# Altium integrated library Xilinx Aerospace and Defense.IntLib: 197 symbols (part 1 of 53)
Pins are listed as number, name and electrical type; pins without a type are passive.

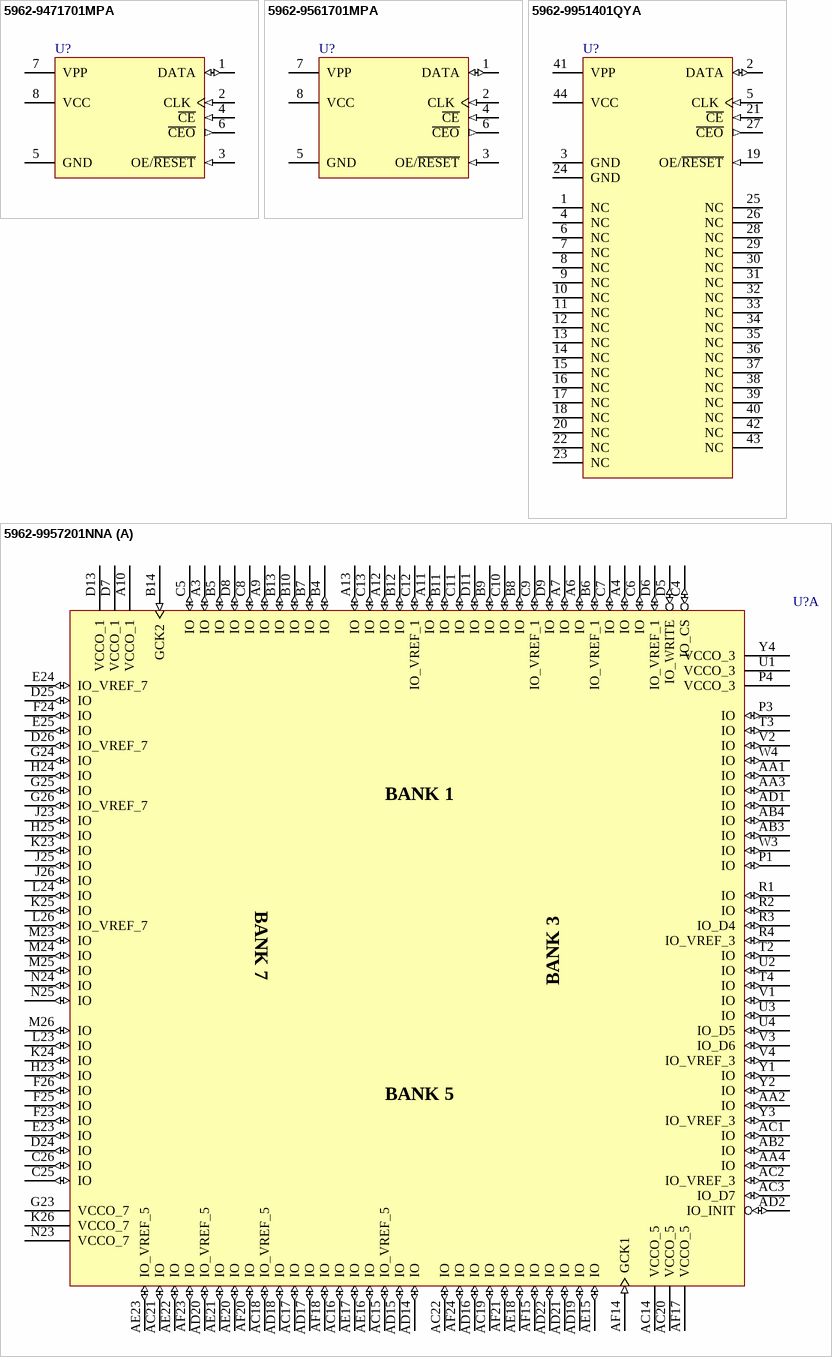
[diagram p0: symbols 5962-9471701MPA to 5962-9957201NNA]

## 5962-9471701MPA
designator U?
QPro XC1765 QML Configuration 5V PROM, SMD Number for XC1765DDD8M, 8-Pin Ceramic DIP, QML Certified to MIL-PRF-38535; DatasheetVersion: ver2.1, Jun-2000; PackageVersion: rev1.0, Apr-2001; PackageReference: DD8; PackageDescription: 8-Pin Ceramic DIP (DD8); Code_JEDEC: MO-001-AN*; ComponentLink1Description: Manufacturer URL; ComponentLink1URL: http://www.xilinx.com/; ComponentLink2Description: QPRO XC1700D Datasheet; ComponentLink2URL: http://www.xilinx.com/support/documentation/data_sheets/ds070.pdf; ComponentLink3Description: DD8 Package Drawing; ComponentLink3URL: http://www.xilinx.com/support/documentation/package_specs/dd8.pdf
footprint DD8 (DIP, 8-Leads, Row Spacing 7.62mm, Pitch 2.54mm, Body 10.16x7.49mm)
pins: 1 DATA (io) "Data Output.", 2 CLK (in) "Clock input for internal address counter.", 3 OE/~{RESET} (in) "Output Enable/Reset.", 4 ~{CE} (in) "Chip Enable Input.", 5 GND (power) "Ground.", 6 ~{CEO} (out) "Chip Enable Output, connects to the CE input of the next PROM in the chain.", 7 VPP (power) "Programming Voltage.  Do not leave Vpp floating!", 8 VCC (power) "Positive Supply."

## 5962-9561701MPA
designator U?
QPro XC17256 QML Configuration 5V PROM, SMD Number for XC17256DDD8M, 8-Pin Ceramic DIP, QML Certified to MIL-PRF-38535; DatasheetVersion: ver2.1, Jun-2000; PackageVersion: rev1.0, Apr-2001; PackageReference: DD8; PackageDescription: 8-Pin Ceramic DIP (DD8); Code_JEDEC: MO-001-AN*; ComponentLink1Description: Manufacturer URL; ComponentLink1URL: http://www.xilinx.com/; ComponentLink2Description: QPRO XC1700D Datasheet; ComponentLink2URL: http://www.xilinx.com/support/documentation/data_sheets/ds070.pdf; ComponentLink3Description: DD8 Package Drawing; ComponentLink3URL: http://www.xilinx.com/support/documentation/package_specs/dd8.pdf
footprint DD8 (DIP, 8-Leads, Row Spacing 7.62mm, Pitch 2.54mm, Body 10.16x7.49mm)
pins: 1 DATA (io) "Data Output.", 2 CLK (in) "Clock input for internal address counter.", 3 OE/~{RESET} (in) "Output Enable/Reset.", 4 ~{CE} (in) "Chip Enable Input.", 5 GND (power) "Ground.", 6 ~{CEO} (out) "Chip Enable Output, connects to the CE input of the next PROM in the chain.", 7 VPP (power) "Programming Voltage.  Do not leave Vpp floating!", 8 VCC (power) "Positive Supply."

## 5962-9951401QYA
designator U?
QPro Series Configuration 3.3V PROM, SMD Number for XQ1701LCC44M, 44-Pin Ceramic LCC, 1-Megabit Density, MIL-PRF-38535 Grade; DatasheetVersion: ver3.1, Nov-2001; PackageVersion: v1.0, Oct-2002; PackageReference: CC44; PackageDescription: 44-Pin Ceramic Chip Carrier Package (CC44); ComponentLink1Description: Manufacturer URL; ComponentLink1URL: http://www.xilinx.com/; ComponentLink2Description: QPro Series XQ/XQR Datasheet; ComponentLink2URL: http://www.xilinx.com/support/documentation/data_sheets/ds062.pdf; ComponentLink3Description: CC44 Package Drawing; ComponentLink3URL: http://www.xilinx.com/support/documentation/package_specs/cc44.pdf
footprint CC44_N (Leaded Chip Carrier, 44-Leads, Body 16.4x16.4mm, Pitch 1.27mm, IPC Medium Density)
footprint CC44_L (Leaded Chip Carrier, 44-Leads, Body 16.4x16.4mm, Pitch 1.27mm, IPC High Density)
footprint CC44_M (Leaded Chip Carrier, 44-Leads, Body 16.4x16.4mm, Pitch 1.27mm, IPC Low Density)
pins: 1 NC "No Connection.", 2 DATA (io) "Data Output.", 3 GND (power) "Ground.", 4 NC "No Connection.", 5 CLK (in) "Clock input for internal address counter.", 6 NC "No Connection.", 7 NC "No Connection.", 8 NC "No Connection.", 9 NC "No Connection.", 10 NC "No Connection.", 11 NC "No Connection.", 12 NC "No Connection.", 13 NC "No Connection.", 14 NC "No Connection.", 15 NC "No Connection.", 16 NC "No Connection.", 17 NC "No Connection.", 18 NC "No Connection.", 19 OE/~{RESET} (in) "Output Enable/Reset.", 20 NC "No Connection.", 21 ~{CE} (in) "Chip Enable Input.", 22 NC "No Connection.", 23 NC "No Connection.", 24 GND (power) "Ground.", 25 NC "No Connection.", 26 NC "No Connection.", 27 ~{CEO} (out) "Chip Enable Output, connects to the CE input of the next PROM in the chain.", 28 NC "No Connection.", 29 NC "No Connection.", 30 NC "No Connection.", 31 NC "No Connection.", 32 NC "No Connection.", 33 NC "No Connection.", 34 NC "No Connection.", 35 NC "No Connection.", 36 NC "No Connection.", 37 NC "No Connection.", 38 NC "No Connection.", 39 NC "No Connection.", 40 NC "No Connection.", 41 VPP (power) "Programming Voltage.  Do not leave Vpp floating!", 42 NC "No Connection.", 43 NC "No Connection.", 44 VCC (power) "Positive Supply."

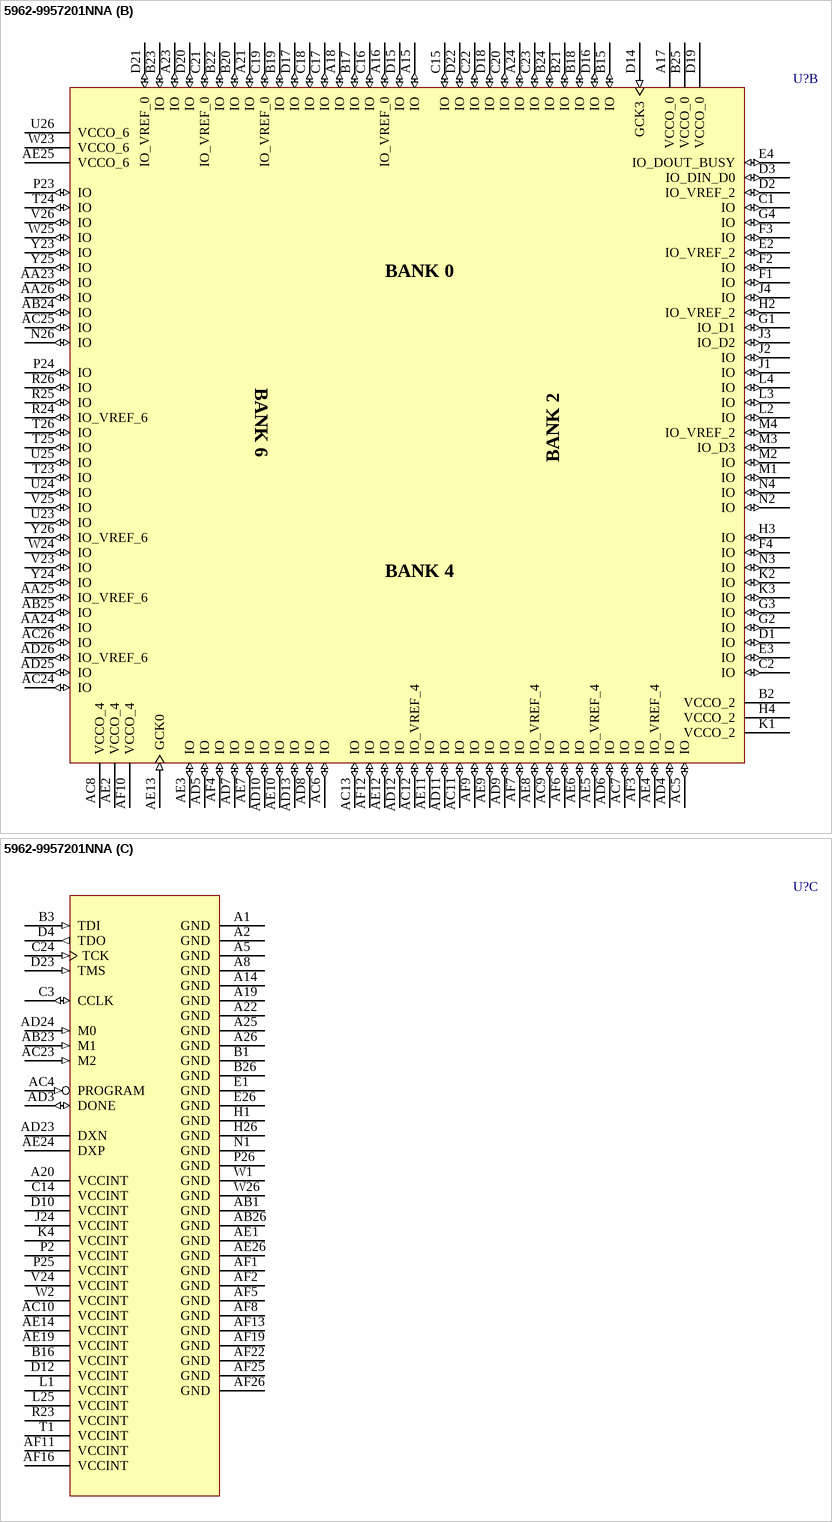
[diagram p1: symbol 5962-9957201NNA]

## 5962-9957201NNA
designator U?
QPro Virtex 2.5V QML High-Reliability FPGA, SMD Number for XQV300-4BG352N, 352-Pin BGA, Speed Grade 4, MIL-PRF-38535 Grade; DatasheetVersion: ver1.5, Dec-2001; PackageVersion: ver1.1, Apr-2001; PackageReference: BG352; PackageDescription: 352-Ball Metal Ball Grid Array (BG352); Code_JEDEC: MO-192-BAR-2; ComponentLink1Description: Manufacturer URL; ComponentLink1URL: http://www.xilinx.com/; ComponentLink2Description: QPro Virtex Datasheet; ComponentLink2URL: http://www.xilinx.com/support/documentation/data_sheets/ds002.pdf; ComponentLink3Description: BG352 Package Drawing; ComponentLink3URL: http://www.xilinx.com/support/documentation/package_specs/bg352.pdf
footprint BG352 (BGA, 352-Leads, Body 35x35mm, Pitch 1.27mm)
part A pins: A3 IO (io), A4 IO (io), A6 IO (io), A7 IO (io), A9 IO (io), A10 VCCO_1 (power), A11 IO (io), A12 IO (io), A13 IO (io), AA1 IO (io), AA2 IO (io), AA3 IO (io), AA4 IO (io), AB2 IO (io), AB3 IO (io), AB4 IO (io), AC1 IO (io), AC2 IO_VREF_3 (io), AC3 IO_D7 (io), AC14 VCCO_5 (power), AC15 IO_VREF_5 (io), AC16 IO (io), AC17 IO (io), AC18 IO_VREF_5 (io), AC19 IO (io), AC20 VCCO_5 (power), AC21 IO (io), AC22 IO (io), AD1 IO (io), AD2 IO_INIT (io), AD14 IO (io), AD15 IO (io), AD16 IO (io), AD17 IO (io), AD18 IO (io), AD19 IO (io), AD20 IO_VREF_5 (io), AD21 IO (io), AD22 IO (io), AE15 IO (io), AE16 IO (io), AE17 IO (io), AE18 IO (io), AE20 IO (io), AE21 IO (io), AE22 IO (io), AE23 IO_VREF_5 (io), AF14 GCK1 (in), AF15 IO (io), AF17 VCCO_5 (power), AF18 IO (io), AF20 IO (io), AF21 IO (io), AF23 IO (io), AF24 IO (io), B4 IO (io), B5 IO (io), B6 IO_VREF_1 (io), B7 IO (io), B8 IO (io), B9 IO (io), B10 IO (io), B11 IO (io), B12 IO (io), B13 IO (io), B14 GCK2 (in), C4 IO_CS (io), C5 IO (io), C6 IO (io), C7 IO (io), C8 IO (io), C9 IO_VREF_1 (io), C10 IO (io), C11 IO (io), C12 IO_VREF_1 (io), C13 IO (io), C25 IO (io), C26 IO (io), D5 IO_WRITE (io), D6 IO_VREF_1 (io), D7 VCCO_1 (power), D8 IO (io), D9 IO (io), D11 IO (io), D13 VCCO_1 (power), D24 IO (io), D25 IO (io), D26 IO_VREF_7 (io), E23 IO (io), E24 IO_VREF_7 (io), E25 IO (io), F23 IO (io), F24 IO (io), F25 IO (io), F26 IO (io), G23 VCCO_7 (power), G24 IO (io), G25 IO (io), G26 IO_VREF_7 (io), H23 IO (io), H24 IO (io), H25 IO (io), J23 IO (io), J25 IO (io), J26 IO (io), K23 IO (io), K24 IO (io), K25 IO (io), K26 VCCO_7 (power), L23 IO (io), L24 IO (io), L26 IO_VREF_7 (io), M23 IO (io), M24 IO (io), M25 IO (io), M26 IO (io), N23 VCCO_7 (power), N24 IO (io), N25 IO (io), P1 IO (io), P3 IO (io), P4 VCCO_3 (power), R1 IO (io), R2 IO (io), R3 IO_D4 (io), R4 IO_VREF_3 (io), T2 IO (io), T3 IO (io), T4 IO (io), U1 VCCO_3 (power), U2 IO (io), U3 IO (io), U4 IO_D5 (io), V1 IO (io), V2 IO (io), V3 IO_D6 (io), V4 IO_VREF_3 (io), W3 IO (io), W4 IO (io), Y1 IO (io), Y2 IO (io), Y3 IO_VREF_3 (io), Y4 VCCO_3 (power)
part B pins: A15 IO (io), A16 IO_VREF_0 (io), A17 VCCO_0 (power), A18 IO (io), A21 IO (io), A23 IO (io), A24 IO (io), AA23 IO (io), AA24 IO (io), AA25 IO_VREF_6 (io), AA26 IO (io), AB24 IO (io), AB25 IO (io), AC5 IO (io), AC6 IO (io), AC7 IO (io), AC8 VCCO_4 (power), AC9 IO (io), AC11 IO (io), AC12 IO_VREF_4 (io), AC13 IO (io), AC24 IO (io), AC25 IO (io), AC26 IO (io), AD4 IO (io), AD5 IO (io), AD6 IO (io), AD7 IO (io), AD8 IO (io), AD9 IO (io), AD10 IO (io), AD11 IO (io), AD12 IO (io), AD13 IO (io), AD25 IO (io), AD26 IO_VREF_6 (io), AE2 VCCO_4 (power), AE3 IO (io), AE4 IO_VREF_4 (io), AE5 IO_VREF_4 (io), AE6 IO (io), AE7 IO (io), AE8 IO_VREF_4 (io), AE9 IO (io), AE10 IO (io), AE11 IO (io), AE12 IO (io), AE13 GCK0 (in), AE25 VCCO_6 (power), AF3 IO (io), AF4 IO (io), AF6 IO (io), AF7 IO (io), AF9 IO (io), AF10 VCCO_4 (power), AF12 IO (io), B2 VCCO_2 (power), B15 IO (io), B17 IO (io), B18 IO (io), B19 IO (io), B20 IO (io), B21 IO (io), B22 IO (io), B23 IO (io), B24 IO (io), B25 VCCO_0 (power), C1 IO (io), C2 IO (io), C15 IO (io), C16 IO (io), C17 IO (io), C18 IO (io), C19 IO_VREF_0 (io), C20 IO (io), C21 IO_VREF_0 (io), C22 IO (io), C23 IO (io), D1 IO (io), D2 IO_VREF_2 (io), D3 IO_DIN_D0 (io), D14 GCK3 (in), D15 IO (io), D16 IO (io), D17 IO (io), D18 IO (io), D19 VCCO_0 (power), D20 IO (io), D21 IO_VREF_0 (io), D22 IO (io), E2 IO_VREF_2 (io), E3 IO (io), E4 IO_DOUT_BUSY (io), F1 IO (io), F2 IO (io), F3 IO (io), F4 IO (io), G1 IO_D1 (io), G2 IO (io), G3 IO (io), G4 IO (io), H2 IO_VREF_2 (io), H3 IO (io), H4 VCCO_2 (power), J1 IO (io), J2 IO (io), J3 IO_D2 (io), J4 IO (io), K1 VCCO_2 (power), K2 IO (io), K3 IO (io), L2 IO (io), L3 IO (io), L4 IO (io), M1 IO (io), M2 IO (io), M3 IO_D3 (io), M4 IO_VREF_2 (io), N2 IO (io), N3 IO (io), N4 IO (io), N26 IO (io), P23 IO (io), P24 IO (io), R24 IO_VREF_6 (io), R25 IO (io), R26 IO (io), T23 IO (io), T24 IO (io), T25 IO (io), T26 IO (io), U23 IO (io), U24 IO (io), U25 IO (io), U26 VCCO_6 (power), V23 IO (io), V25 IO (io), V26 IO (io), W23 VCCO_6 (power), W24 IO (io), W25 IO (io), Y23 IO (io), Y24 IO (io), Y25 IO (io), Y26 IO_VREF_6 (io)
part C pins: A1 GND (power), A2 GND (power), A5 GND (power), A8 GND (power), A14 GND (power), A19 GND (power), A20 VCCINT (power), A22 GND (power), A25 GND (power), A26 GND (power), AB1 GND (power), AB23 M1 (in), AB26 GND (power), AC4 PROGRAM (in), AC10 VCCINT (power), AC23 M2 (in), AD3 DONE (io), AD23 DXN, AD24 M0 (in), AE1 GND (power), AE14 VCCINT (power), AE19 VCCINT (power), AE24 DXP, AE26 GND (power), AF1 GND (power), AF2 GND (power), AF5 GND (power), AF8 GND (power), AF11 VCCINT (power), AF13 GND (power), AF16 VCCINT (power), AF19 GND (power), AF22 GND (power), AF25 GND (power), AF26 GND (power), B1 GND (power), B3 TDI (in), B16 VCCINT (power), B26 GND (power), C3 CCLK (io), C14 VCCINT (power), C24 TCK (in), D4 TDO (out), D10 VCCINT (power), D12 VCCINT (power), D23 TMS (in), E1 GND (power), E26 GND (power), H1 GND (power), H26 GND (power), J24 VCCINT (power), K4 VCCINT (power), L1 VCCINT (power), L25 VCCINT (power), N1 GND (power), P2 VCCINT (power), P25 VCCINT (power), P26 GND (power), R23 VCCINT (power), T1 VCCINT (power), V24 VCCINT (power), W1 GND (power), W2 VCCINT (power), W26 GND (power)
part A text: BANK 1; BANK 7; BANK 3; BANK 5
part B text: BANK 0; BANK 6; BANK 2; BANK 4

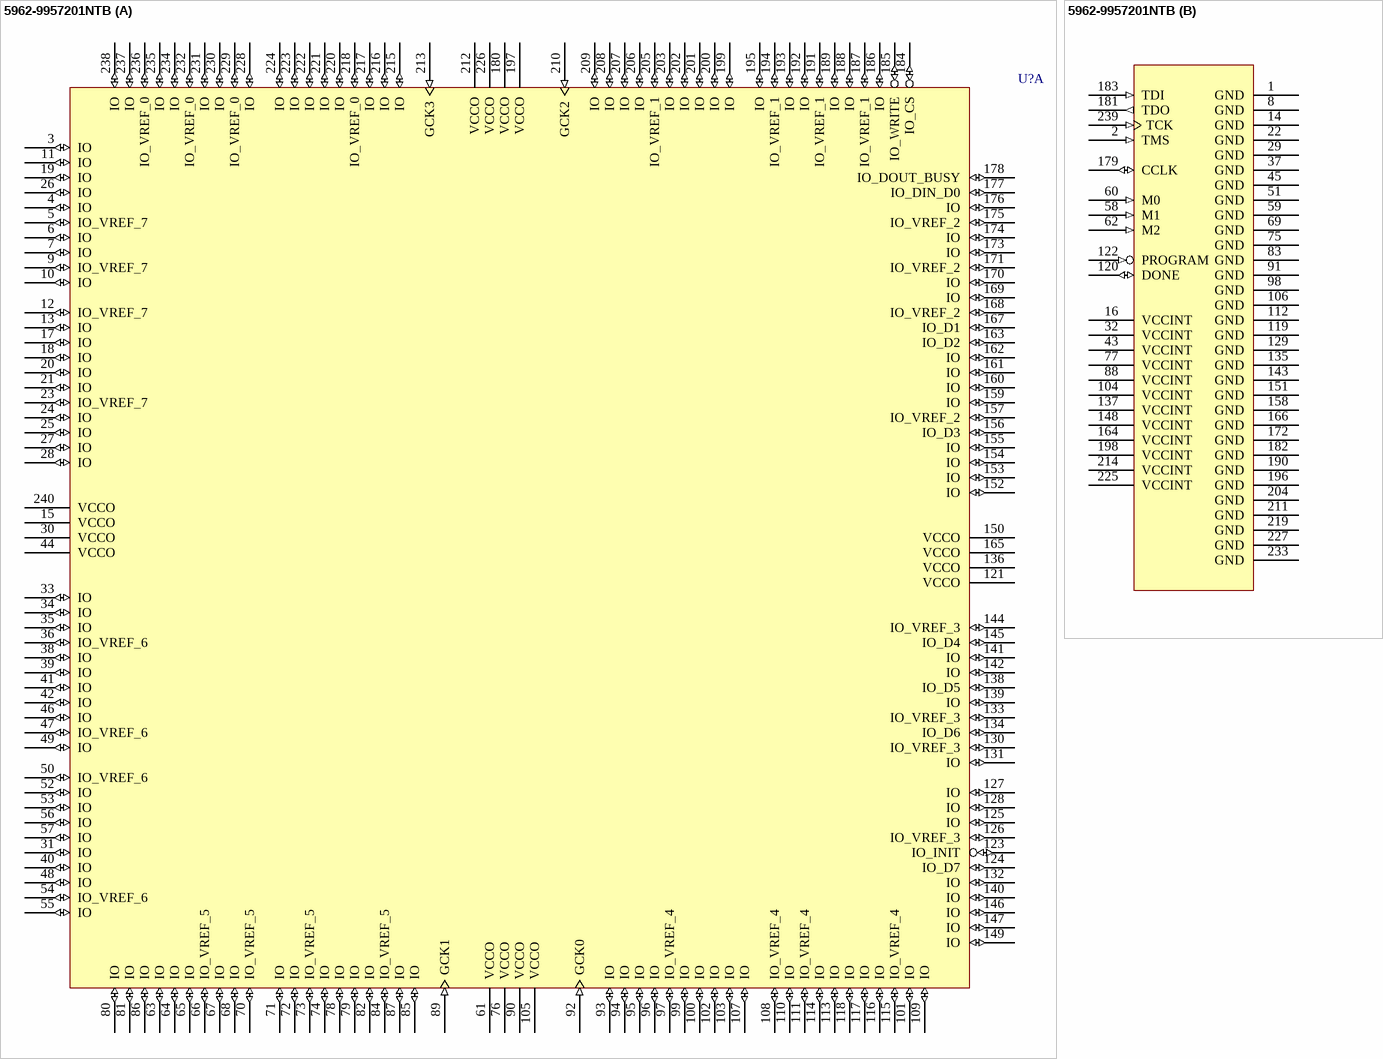
[diagram p2: symbol 5962-9957201NTB]

## 5962-9957201NTB
designator U?
QPro Virtex 2.5V QML High-Reliability FPGA, SMD Number for XQV300-4PQ240N, 166 User I/Os, 240-Pin PQFP, Speed Grade 4, MIL-PRF-38535 Grade; DatasheetVersion: ver1.5, Dec-2001; PackageVersion: ver1.2, Jun-2004; PackageReference: PQ240; PackageDescription: 240-Pin Plastic Quad Flat Pack (PQ240); Code_JEDEC: MO-143-GA; ComponentLink1Description: Manufacturer URL; ComponentLink1URL: http://www.xilinx.com/; ComponentLink2Description: QPro Virtex Datasheet; ComponentLink2URL: http://www.xilinx.com/support/documentation/data_sheets/ds002.pdf; ComponentLink3Description: PQ240 Package Drawing; ComponentLink3URL: http://www.xilinx.com/support/documentation/package_specs/pq240.pdf
footprint PQ240_N (Shrink QFP, 240-Leads, Body 32x32mm, Pitch 0.5mm, IPC Medium Density)
footprint PQ240_L (Shrink QFP, 240-Leads, Body 32x32mm, Pitch 0.5mm, IPC High Density)
footprint PQ240_M (Shrink QFP, 240-Leads, Body 32x32mm, Pitch 0.5mm, IPC Low Density)
part A pins: 3 IO (io), 4 IO (io), 5 IO_VREF_7 (io), 6 IO (io), 7 IO (io), 9 IO_VREF_7 (io), 10 IO (io), 11 IO (io), 12 IO_VREF_7 (io), 13 IO (io), 15 VCCO (power), 17 IO (io), 18 IO (io), 19 IO (io), 20 IO (io), 21 IO (io), 23 IO_VREF_7 (io), 24 IO (io), 25 IO (io), 26 IO (io), 27 IO (io), 28 IO (io), 30 VCCO (power), 31 IO (io), 33 IO (io), 34 IO (io), 35 IO (io), 36 IO_VREF_6 (io), 38 IO (io), 39 IO (io), 40 IO (io), 41 IO (io), 42 IO (io), 44 VCCO (power), 46 IO (io), 47 IO_VREF_6 (io), 48 IO (io), 49 IO (io), 50 IO_VREF_6 (io), 52 IO (io), 53 IO (io), 54 IO_VREF_6 (io), 55 IO (io), 56 IO (io), 57 IO (io), 61 VCCO (power), 63 IO (io), 64 IO (io), 65 IO (io), 66 IO_VREF_5 (io), 67 IO (io), 68 IO (io), 70 IO_VREF_5 (io), 71 IO (io), 72 IO (io), 73 IO_VREF_5 (io), 74 IO (io), 76 VCCO (power), 78 IO (io), 79 IO (io), 80 IO (io), 81 IO (io), 82 IO (io), 84 IO_VREF_5 (io), 85 IO (io), 86 IO (io), 87 IO (io), 89 GCK1 (in), 90 VCCO (power), 92 GCK0 (in), 93 IO (io), 94 IO (io), 95 IO (io), 96 IO (io), 97 IO_VREF_4 (io), 99 IO (io), 100 IO (io), 101 IO (io), 102 IO (io), 103 IO (io), 105 VCCO (power), 107 IO (io), 108 IO_VREF_4 (io), 109 IO (io), 110 IO (io), 111 IO_VREF_4 (io), 113 IO (io), 114 IO (io), 115 IO_VREF_4 (io), 116 IO (io), 117 IO (io), 118 IO (io), 121 VCCO (power), 123 IO_INIT (io), 124 IO_D7 (io), 125 IO (io), 126 IO_VREF_3 (io), 127 IO (io), 128 IO (io), 130 IO_VREF_3 (io), 131 IO (io), 132 IO (io), 133 IO_VREF_3 (io), 134 IO_D6 (io), 136 VCCO (power), 138 IO_D5 (io), 139 IO (io), 140 IO (io), 141 IO (io), 142 IO (io), 144 IO_VREF_3 (io), 145 IO_D4 (io), 146 IO (io), 147 IO (io), 149 IO (io), 150 VCCO (power), 152 IO (io), 153 IO (io), 154 IO (io), 155 IO (io), 156 IO_D3 (io), 157 IO_VREF_2 (io), 159 IO (io), 160 IO (io), 161 IO (io), 162 IO (io), 163 IO_D2 (io), 165 VCCO (power), 167 IO_D1 (io), 168 IO_VREF_2 (io), 169 IO (io), 170 IO (io), 171 IO_VREF_2 (io), 173 IO (io), 174 IO (io), 175 IO_VREF_2 (io), 176 IO (io), 177 IO_DIN_D0 (io), 178 IO_DOUT_BUSY (io), 180 VCCO (power), 184 IO_CS (io), 185 IO_WRITE (io), 186 IO (io), 187 IO_VREF_1 (io), 188 IO (io), 189 IO (io), 191 IO_VREF_1 (io), 192 IO (io), 193 IO (io), 194 IO_VREF_1 (io), 195 IO (io), 197 VCCO (power), 199 IO (io), 200 IO (io), 201 IO (io), 202 IO (io), 203 IO (io), 205 IO_VREF_1 (io), 206 IO (io), 207 IO (io), 208 IO (io), 209 IO (io), 210 GCK2 (in), 212 VCCO (power), 213 GCK3 (in), 215 IO (io), 216 IO (io), 217 IO (io), 218 IO_VREF_0 (io), 220 IO (io), 221 IO (io), 222 IO (io), 223 IO (io), 224 IO (io), 226 VCCO (power), 228 IO (io), 229 IO_VREF_0 (io), 230 IO (io), 231 IO (io), 232 IO_VREF_0 (io), 234 IO (io), 235 IO (io), 236 IO_VREF_0 (io), 237 IO (io), 238 IO (io), 240 VCCO (power)
part B pins: 1 GND (power), 2 TMS (in), 8 GND (power), 14 GND (power), 16 VCCINT (power), 22 GND (power), 29 GND (power), 32 VCCINT (power), 37 GND (power), 43 VCCINT (power), 45 GND (power), 51 GND (power), 58 M1 (in), 59 GND (power), 60 M0 (in), 62 M2 (in), 69 GND (power), 75 GND (power), 77 VCCINT (power), 83 GND (power), 88 VCCINT (power), 91 GND (power), 98 GND (power), 104 VCCINT (power), 106 GND (power), 112 GND (power), 119 GND (power), 120 DONE (io), 122 PROGRAM (in), 129 GND (power), 135 GND (power), 137 VCCINT (power), 143 GND (power), 148 VCCINT (power), 151 GND (power), 158 GND (power), 164 VCCINT (power), 166 GND (power), 172 GND (power), 179 CCLK (io), 181 TDO (out), 182 GND (power), 183 TDI (in), 190 GND (power), 196 GND (power), 198 VCCINT (power), 204 GND (power), 211 GND (power), 214 VCCINT (power), 219 GND (power), 225 VCCINT (power), 227 GND (power), 233 GND (power), 239 TCK (in)

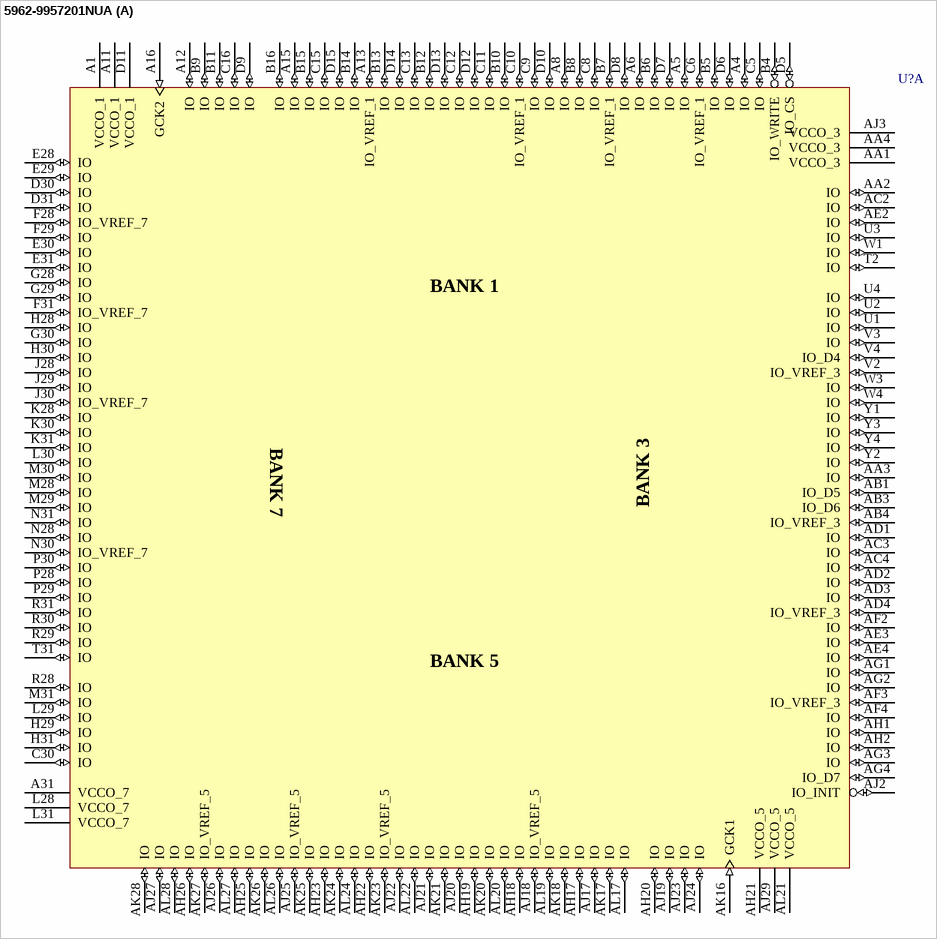
[diagram p3: symbol 5962-9957201NUA]

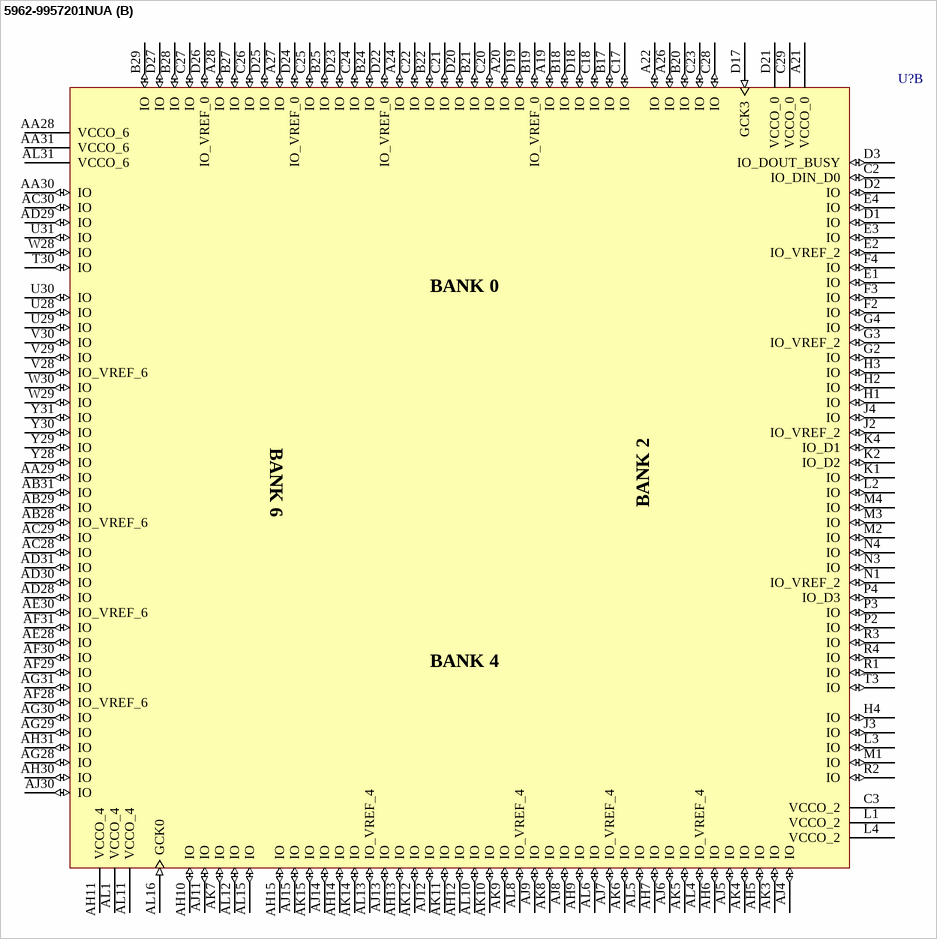
[diagram p4: symbol 5962-9957201NUA]

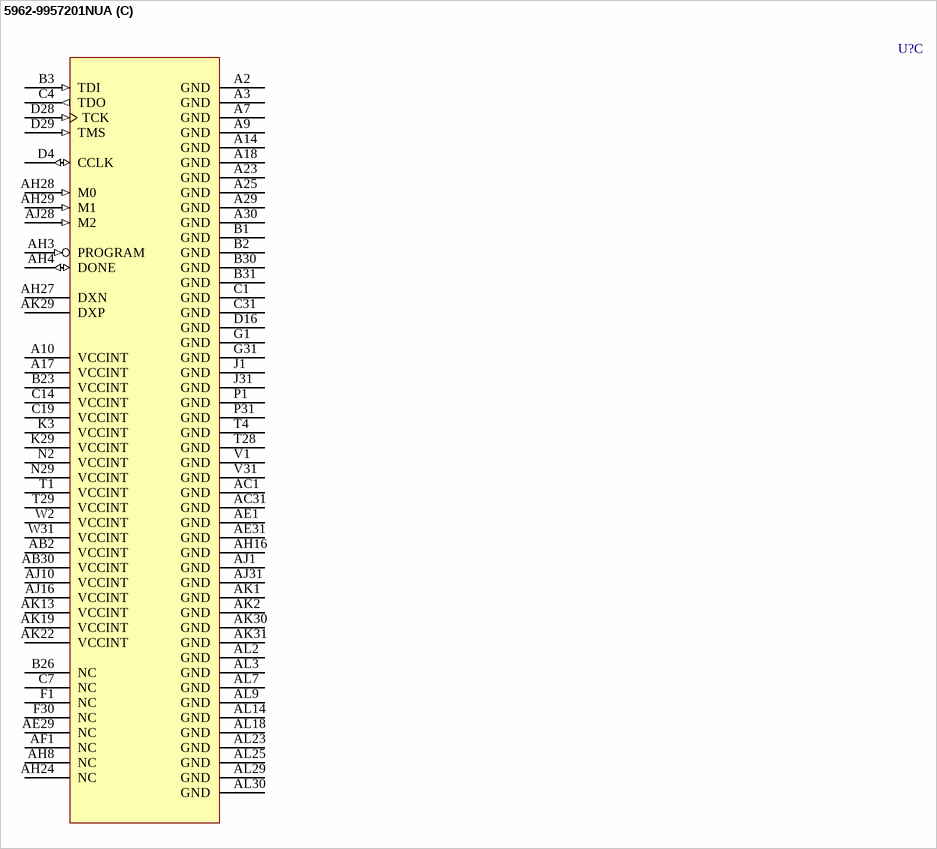
[diagram p5: symbol 5962-9957201NUA]

## 5962-9957201NUA
designator U?
QPro Virtex 2.5V QML High-Reliability FPGA, SMD Number for XQV300-4BG432N, 316 User I/Os, 432-Pin BGA, Speed Grade 4, MIL-PRF-38535 Grade; DatasheetVersion: ver1.5, Dec-2001; PackageVersion: ver1.1, Apr-2001; PackageReference: BG432; PackageDescription: 432-Ball Metal Ball Grid Array (BG432); Code_JEDEC: MO-192-BAU-1 (Depopulated); ComponentLink1Description: Manufacturer URL; ComponentLink1URL: http://www.xilinx.com/; ComponentLink2Description: QPro Virtex Datasheet; ComponentLink2URL: http://www.xilinx.com/support/documentation/data_sheets/ds002.pdf; ComponentLink3Description: BG432 Package Drawing; ComponentLink3URL: http://www.xilinx.com/support/documentation/package_specs/bg432.pdf
footprint BG432 (BGA, 432-Leads, Body 40x40mm, Pitch 1.27mm)
part A pins: A1 VCCO_1 (power), A4 IO (io), A5 IO (io), A6 IO (io), A8 IO (io), A11 VCCO_1 (power), A12 IO (io), A13 IO_VREF_1 (io), A15 IO (io), A16 GCK2 (in), A31 VCCO_7 (power), AA1 VCCO_3 (power), AA2 IO (io), AA3 IO (io), AA4 VCCO_3 (power), AB1 IO_D5 (io), AB3 IO_D6 (io), AB4 IO_VREF_3 (io), AC2 IO (io), AC3 IO (io), AC4 IO (io), AD1 IO (io), AD2 IO (io), AD3 IO (io), AD4 IO_VREF_3 (io), AE2 IO (io), AE3 IO (io), AE4 IO (io), AF2 IO (io), AF3 IO_VREF_3 (io), AF4 IO (io), AG1 IO (io), AG2 IO (io), AG3 IO (io), AG4 IO_D7 (io), AH1 IO (io), AH2 IO (io), AH17 IO (io), AH18 IO (io), AH19 IO (io), AH20 IO (io), AH21 VCCO_5 (power), AH22 IO (io), AH23 IO (io), AH25 IO (io), AH26 IO (io), AJ2 IO_INIT (io), AJ3 VCCO_3 (power), AJ17 IO (io), AJ18 IO_VREF_5 (io), AJ19 IO (io), AJ20 IO (io), AJ21 IO (io), AJ22 IO (io), AJ23 IO (io), AJ24 IO (io), AJ25 IO_VREF_5 (io), AJ26 IO (io), AJ27 IO (io), AJ29 VCCO_5 (power), AK16 GCK1 (in), AK17 IO (io), AK18 IO (io), AK20 IO (io), AK21 IO (io), AK23 IO_VREF_5 (io), AK24 IO (io), AK25 IO (io), AK26 IO (io), AK27 IO_VREF_5 (io), AK28 IO (io), AL17 IO (io), AL19 IO (io), AL20 IO (io), AL21 VCCO_5 (power), AL22 IO (io), AL24 IO (io), AL26 IO (io), AL27 IO (io), AL28 IO (io), B4 IO_WRITE (io), B5 IO (io), B6 IO (io), B7 IO_VREF_1 (io), B8 IO (io), B9 IO (io), B10 IO (io), B11 IO (io), B12 IO (io), B13 IO (io), B14 IO (io), B15 IO (io), B16 IO (io), C5 IO (io), C6 IO_VREF_1 (io), C8 IO (io), C9 IO (io), C10 IO_VREF_1 (io), C11 IO (io), C12 IO (io), C13 IO (io), C15 IO (io), C16 IO (io), C30 IO (io), D5 IO_CS (io), D6 IO (io), D7 IO (io), D8 IO (io), D9 IO (io), D10 IO (io), D11 VCCO_1 (power), D12 IO (io), D13 IO (io), D14 IO (io), D15 IO (io), D30 IO (io), D31 IO (io), E28 IO (io), E29 IO (io), E30 IO (io), E31 IO (io), F28 IO_VREF_7 (io), F29 IO (io), F31 IO_VREF_7 (io), G28 IO (io), G29 IO (io), G30 IO (io), H28 IO (io), H29 IO (io), H30 IO (io), H31 IO (io), J28 IO (io), J29 IO (io), J30 IO_VREF_7 (io), K28 IO (io), K30 IO (io), K31 IO (io), L28 VCCO_7 (power), L29 IO (io), L30 IO (io), L31 VCCO_7 (power), M28 IO (io), M29 IO (io), M30 IO (io), M31 IO (io), N28 IO (io), N30 IO_VREF_7 (io), N31 IO (io), P28 IO (io), P29 IO (io), P30 IO (io), R28 IO (io), R29 IO (io), R30 IO (io), R31 IO (io), T2 IO (io), T31 IO (io), U1 IO (io), U2 IO (io), U3 IO (io), U4 IO (io), V2 IO_VREF_3 (io), V3 IO (io), V4 IO_D4 (io), W1 IO (io), W3 IO (io), W4 IO (io), Y1 IO (io), Y2 IO (io), Y3 IO (io), Y4 IO (io)
part B pins: A19 IO (io), A20 IO (io), A21 VCCO_0 (power), A22 IO (io), A24 IO (io), A26 IO (io), A27 IO (io), A28 IO (io), AA28 VCCO_6 (power), AA29 IO (io), AA30 IO (io), AA31 VCCO_6 (power), AB28 IO_VREF_6 (io), AB29 IO (io), AB31 IO (io), AC28 IO (io), AC29 IO (io), AC30 IO (io), AD28 IO (io), AD29 IO (io), AD30 IO (io), AD31 IO (io), AE28 IO (io), AE30 IO_VREF_6 (io), AF28 IO_VREF_6 (io), AF29 IO (io), AF30 IO (io), AF31 IO (io), AG28 IO (io), AG29 IO (io), AG30 IO (io), AG31 IO (io), AH5 IO (io), AH6 IO (io), AH7 IO (io), AH9 IO (io), AH10 IO (io), AH11 VCCO_4 (power), AH12 IO (io), AH13 IO (io), AH14 IO (io), AH15 IO (io), AH30 IO (io), AH31 IO (io), AJ4 IO (io), AJ5 IO (io), AJ6 IO (io), AJ7 IO_VREF_4 (io), AJ8 IO (io), AJ9 IO (io), AJ11 IO (io), AJ12 IO (io), AJ13 IO (io), AJ14 IO (io), AJ15 IO (io), AJ30 IO (io), AK3 IO (io), AK4 IO (io), AK5 IO (io), AK6 IO (io), AK7 IO (io), AK8 IO (io), AK9 IO (io), AK10 IO (io), AK11 IO (io), AK12 IO (io), AK14 IO (io), AK15 IO (io), AL1 VCCO_4 (power), AL4 IO_VREF_4 (io), AL5 IO (io), AL6 IO (io), AL8 IO_VREF_4 (io), AL10 IO (io), AL11 VCCO_4 (power), AL12 IO (io), AL13 IO_VREF_4 (io), AL15 IO (io), AL16 GCK0 (in), AL31 VCCO_6 (power), B17 IO (io), B18 IO (io), B19 IO_VREF_0 (io), B20 IO (io), B21 IO (io), B22 IO (io), B24 IO (io), B25 IO (io), B27 IO (io), B28 IO (io), B29 IO (io), C2 IO_DIN_D0 (io), C3 VCCO_2 (power), C17 IO (io), C18 IO (io), C20 IO (io), C21 IO (io), C22 IO (io), C23 IO (io), C24 IO (io), C25 IO (io), C26 IO (io), C27 IO (io), C28 IO (io), C29 VCCO_0 (power), D1 IO (io), D2 IO (io), D3 IO_DOUT_BUSY (io), D17 GCK3 (in), D18 IO (io), D19 IO (io), D20 IO (io), D21 VCCO_0 (power), D22 IO_VREF_0 (io), D23 IO (io), D24 IO_VREF_0 (io), D25 IO (io), D26 IO_VREF_0 (io), D27 IO (io), E1 IO (io), E2 IO_VREF_2 (io), E3 IO (io), E4 IO (io), F2 IO (io), F3 IO (io), F4 IO (io), G2 IO (io), G3 IO_VREF_2 (io), G4 IO (io), H1 IO (io), H2 IO (io), H3 IO (io), H4 IO (io), J2 IO_VREF_2 (io), J3 IO (io), J4 IO (io), K1 IO (io), K2 IO_D2 (io), K4 IO_D1 (io), L1 VCCO_2 (power), L2 IO (io), L3 IO (io), L4 VCCO_2 (power), M1 IO (io), M2 IO (io), M3 IO (io), M4 IO (io), N1 IO_VREF_2 (io), N3 IO (io), N4 IO (io), P2 IO (io), P3 IO (io), P4 IO_D3 (io), R1 IO (io), R2 IO (io), R3 IO (io), R4 IO (io), T3 IO (io), T30 IO (io), U28 IO (io), U29 IO (io), U30 IO (io), U31 IO (io), V28 IO_VREF_6 (io), V29 IO (io), V30 IO (io), W28 IO (io), W29 IO (io), W30 IO (io), Y28 IO (io), Y29 IO (io), Y30 IO (io), Y31 IO (io)
part C pins: A2 GND (power), A3 GND (power), A7 GND (power), A9 GND (power), A10 VCCINT (power), A14 GND (power), A17 VCCINT (power), A18 GND (power), A23 GND (power), A25 GND (power), A29 GND (power), A30 GND (power), AB2 VCCINT (power), AB30 VCCINT (power), AC1 GND (power), AC31 GND (power), AE1 GND (power), AE29 NC, AE31 GND (power), AF1 NC, AH3 PROGRAM (in), AH4 DONE (io), AH8 NC, AH16 GND (power), AH24 NC, AH27 DXN, AH28 M0 (in), AH29 M1 (in), AJ1 GND (power), AJ10 VCCINT (power), AJ16 VCCINT (power), AJ28 M2 (in), AJ31 GND (power), AK1 GND (power), AK2 GND (power), AK13 VCCINT (power), AK19 VCCINT (power), AK22 VCCINT (power), AK29 DXP, AK30 GND (power), AK31 GND (power), AL2 GND (power), AL3 GND (power), AL7 GND (power), AL9 GND (power), AL14 GND (power), AL18 GND (power), AL23 GND (power), AL25 GND (power), AL29 GND (power), AL30 GND (power), B1 GND (power), B2 GND (power), B3 TDI (in), B23 VCCINT (power), B26 NC, B30 GND (power), B31 GND (power), C1 GND (power), C4 TDO (out), C7 NC, C14 VCCINT (power), C19 VCCINT (power), C31 GND (power), D4 CCLK (io), D16 GND (power), D28 TCK (in), D29 TMS (in), F1 NC, F30 NC, G1 GND (power), G31 GND (power), J1 GND (power), J31 GND (power), K3 VCCINT (power), K29 VCCINT (power), N2 VCCINT (power), N29 VCCINT (power), P1 GND (power), P31 GND (power), T1 VCCINT (power), T4 GND (power), T28 GND (power), T29 VCCINT (power), V1 GND (power), V31 GND (power), W2 VCCINT (power), W31 VCCINT (power)
part A text: BANK 1; BANK 7; BANK 3; BANK 5
part B text: BANK 0; BANK 6; BANK 2; BANK 4

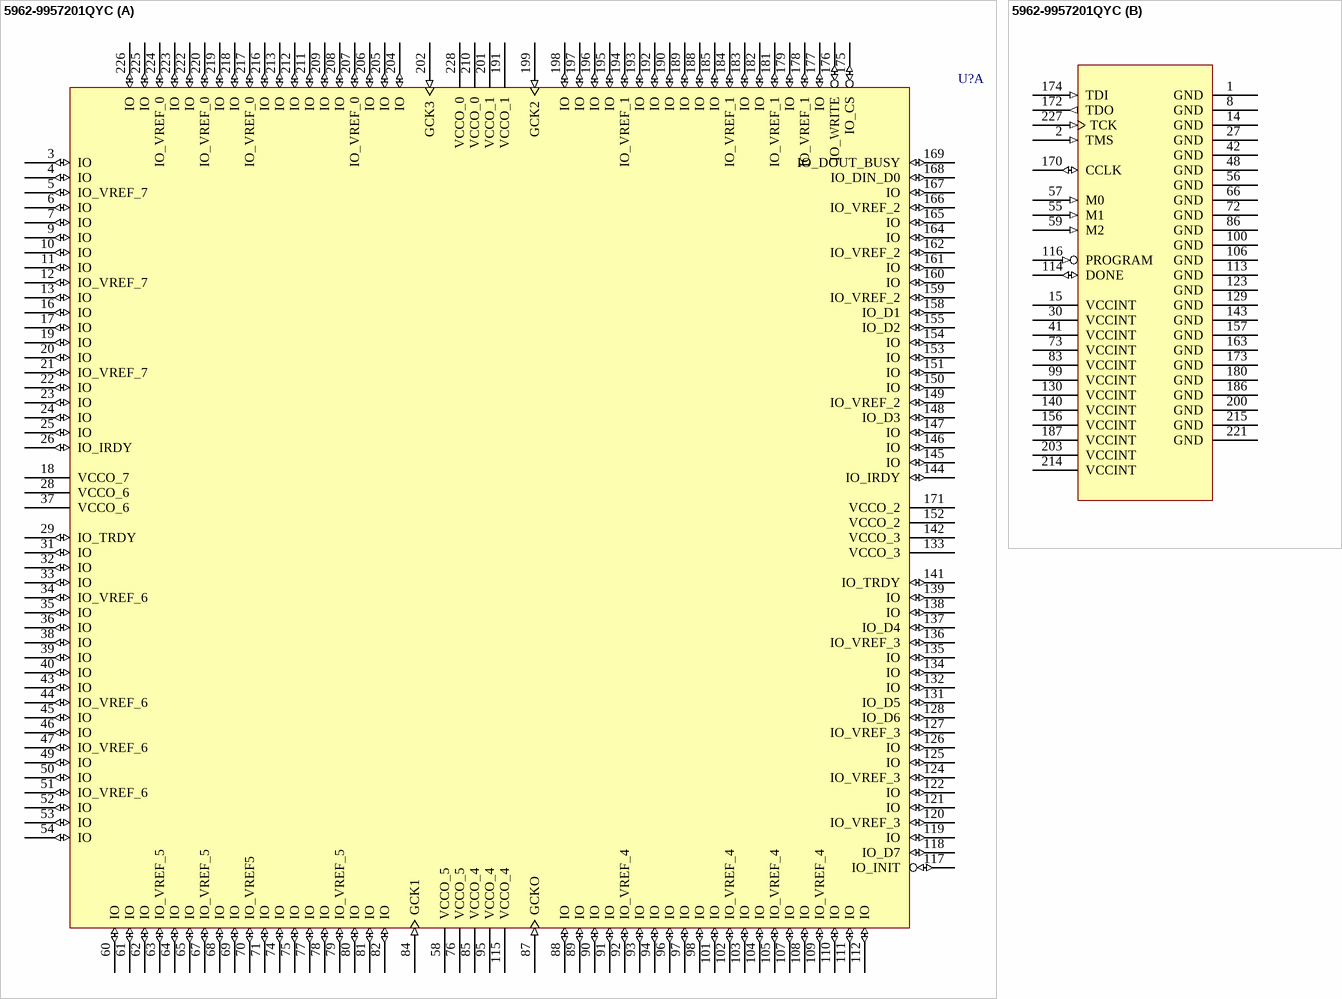
[diagram p6: symbol 5962-9957201QYC]

## 5962-9957201QYC
designator U?
QPro Virtex 2.5V QML High-Reliability FPGA, SMD Number for XQV300-4CB228Q, 162 User I/Os, 228-Pin CQFP, Speed Grade 4, MIL-PRF-38535 Grade; DatasheetVersion: ver1.5, Dec-2001; PackageVersion: ver1.0.1, May-2008; PackageReference: CB228; PackageDescription: 228-Pin Ceramic Brazed Quad Flat Pack (CB228); ComponentLink1Description: Manufacturer URL; ComponentLink1URL: http://www.xilinx.com/; ComponentLink2Description: QPro Virtex Datasheet; ComponentLink2URL: http://www.xilinx.com/support/documentation/data_sheets/ds002.pdf; ComponentLink3Description: CB228 Package Drawing; ComponentLink3URL: http://www.xilinx.com/support/documentation/package_specs/cb228.pdf
footprint CB228_N (CQFP, 228-Leads, Body 39x39mm; Pitch 0.635mm, Gullwing Leadform, IPC Medium Density)
footprint CB228_L (CQFP, 228-Leads, Body 39x39mm; Pitch 0.635mm, Gullwing Leadform, IPC High Density)
footprint CB228_M (CQFP, 228-Leads, Body 39x39mm; Pitch 0.635mm, Gullwing Leadform, IPC Low Density)
part A pins: 3 IO (io), 4 IO (io), 5 IO_VREF_7 (io), 6 IO (io), 7 IO (io), 9 IO (io), 10 IO (io), 11 IO (io), 12 IO_VREF_7 (io), 13 IO (io), 16 IO (io), 17 IO (io), 18 VCCO_7 (power), 19 IO (io), 20 IO (io), 21 IO_VREF_7 (io), 22 IO (io), 23 IO (io), 24 IO (io), 25 IO (io), 26 IO_IRDY (io), 28 VCCO_6 (power), 29 IO_TRDY (io), 31 IO (io), 32 IO (io), 33 IO (io), 34 IO_VREF_6 (io), 35 IO (io), 36 IO (io), 37 VCCO_6 (power), 38 IO (io), 39 IO (io), 40 IO (io), 43 IO (io), 44 IO_VREF_6 (io), 45 IO (io), 46 IO (io), 47 IO_VREF_6 (io), 49 IO (io), 50 IO (io), 51 IO_VREF_6 (io), 52 IO (io), 53 IO (io), 54 IO (io), 58 VCCO_5 (power), 60 IO (io), 61 IO (io), 62 IO (io), 63 IO_VREF_5 (io), 64 IO (io), 65 IO (io), 67 IO_VREF_5 (io), 68 IO (io), 69 IO (io), 70 IO_VREF5 (io), 71 IO (io), 74 IO (io), 75 IO (io), 76 VCCO_5 (power), 77 IO (io), 78 IO (io), 79 IO_VREF_5 (io), 80 IO (io), 81 IO (io), 82 IO (io), 84 GCK1 (in), 85 VCCO_4 (power), 87 GCKO (in), 88 IO (io), 89 IO (io), 90 IO (io), 91 IO (io), 92 IO_VREF_4 (io), 93 IO (io), 94 IO (io), 95 VCCO_4 (power), 96 IO (io), 97 IO (io), 98 IO (io), 101 IO (io), 102 IO_VREF_4 (io), 103 IO (io), 104 IO (io), 105 IO_VREF_4 (io), 107 IO (io), 108 IO (io), 109 IO_VREF_4 (io), 110 IO (io), 111 IO (io), 112 IO (io), 115 VCCO_4 (power), 117 IO_INIT (io), 118 IO_D7 (io), 119 IO (io), 120 IO_VREF_3 (io), 121 IO (io), 122 IO (io), 124 IO_VREF_3 (io), 125 IO (io), 126 IO (io), 127 IO_VREF_3 (io), 128 IO_D6 (io), 131 IO_D5 (io), 132 IO (io), 133 VCCO_3 (power), 134 IO (io), 135 IO (io), 136 IO_VREF_3 (io), 137 IO_D4 (io), 138 IO (io), 139 IO (io), 141 IO_TRDY (io), 142 VCCO_3 (power), 144 IO_IRDY (io), 145 IO (io), 146 IO (io), 147 IO (io), 148 IO_D3 (io), 149 IO_VREF_2 (io), 150 IO (io), 151 IO (io), 152 VCCO_2 (power), 153 IO (io), 154 IO (io), 155 IO_D2 (io), 158 IO_D1 (io), 159 IO_VREF_2 (io), 160 IO (io), 161 IO (io), 162 IO_VREF_2 (io), 164 IO (io), 165 IO (io), 166 IO_VREF_2 (io), 167 IO (io), 168 IO_DIN_D0 (io), 169 IO_DOUT_BUSY (io), 171 VCCO_2 (power), 175 IO_CS (io), 176 IO_WRITE (io), 177 IO (io), 178 IO_VREF_1 (io), 179 IO (io), 181 IO_VREF_1 (io), 182 IO (io), 183 IO (io), 184 IO_VREF_1 (io), 185 IO (io), 188 IO (io), 189 IO (io), 190 IO (io), 191 VCCO_1 (power), 192 IO (io), 193 IO (io), 194 IO_VREF_1 (io), 195 IO (io), 196 IO (io), 197 IO (io), 198 IO (io), 199 GCK2 (in), 201 VCCO_1 (power), 202 GCK3 (in), 204 IO (io), 205 IO (io), 206 IO (io), 207 IO_VREF_0 (io), 208 IO (io), 209 IO (io), 210 VCCO_0 (power), 211 IO (io), 212 IO (io), 213 IO (io), 216 IO (io), 217 IO_VREF_0 (io), 218 IO (io), 219 IO (io), 220 IO_VREF_0 (io), 222 IO (io), 223 IO (io), 224 IO_VREF_0 (io), 225 IO (io), 226 IO (io), 228 VCCO_0 (power)
part B pins: 1 GND (power), 2 TMS (in), 8 GND (power), 14 GND (power), 15 VCCINT (power), 27 GND (power), 30 VCCINT (power), 41 VCCINT (power), 42 GND (power), 48 GND (power), 55 M1 (in), 56 GND (power), 57 M0 (in), 59 M2 (in), 66 GND (power), 72 GND (power), 73 VCCINT (power), 83 VCCINT (power), 86 GND (power), 99 VCCINT (power), 100 GND (power), 106 GND (power), 113 GND (power), 114 DONE (io), 116 PROGRAM (in), 123 GND (power), 129 GND (power), 130 VCCINT (power), 140 VCCINT (power), 143 GND (power), 156 VCCINT (power), 157 GND (power), 163 GND (power), 170 CCLK (io), 172 TDO (out), 173 GND (power), 174 TDI (in), 180 GND (power), 186 GND (power), 187 VCCINT (power), 200 GND (power), 203 VCCINT (power), 214 VCCINT (power), 215 GND (power), 221 GND (power), 227 TCK (in)

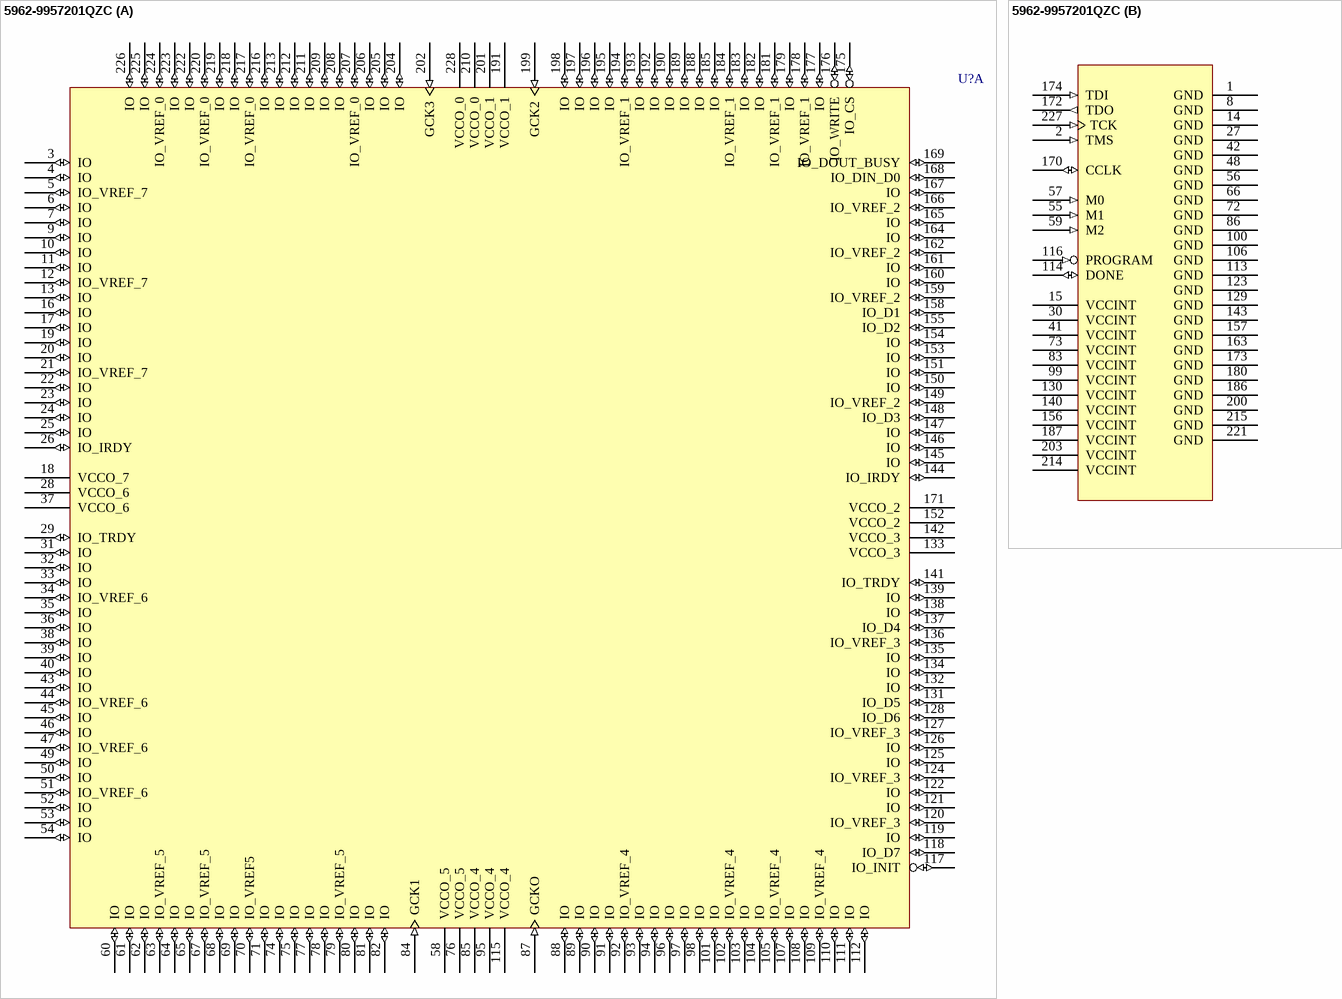
[diagram p7: symbol 5962-9957201QZC]

## 5962-9957201QZC
designator U?
QPro Virtex 2.5V QML High-Reliability FPGA, SMD Number for XQV300-4CB228Q, 162 User I/Os, 228-Pin CQFP, Speed Grade 4, MIL-PRF-38535 Grade; DatasheetVersion: ver1.5, Dec-2001; PackageVersion: ver1.0.1, May-2008; PackageReference: CB228; PackageDescription: 228-Pin Ceramic Brazed Quad Flat Pack (CB228); ComponentLink1Description: Manufacturer URL; ComponentLink1URL: http://www.xilinx.com/; ComponentLink2Description: QPro Virtex Datasheet; ComponentLink2URL: http://www.xilinx.com/support/documentation/data_sheets/ds002.pdf; ComponentLink3Description: CB228 Package Drawing; ComponentLink3URL: http://www.xilinx.com/support/documentation/package_specs/cb228.pdf
footprint CB228_N (CQFP, 228-Leads, Body 39x39mm; Pitch 0.635mm, Gullwing Leadform, IPC Medium Density)
footprint CB228_L (CQFP, 228-Leads, Body 39x39mm; Pitch 0.635mm, Gullwing Leadform, IPC High Density)
footprint CB228_M (CQFP, 228-Leads, Body 39x39mm; Pitch 0.635mm, Gullwing Leadform, IPC Low Density)
part A pins: 3 IO (io), 4 IO (io), 5 IO_VREF_7 (io), 6 IO (io), 7 IO (io), 9 IO (io), 10 IO (io), 11 IO (io), 12 IO_VREF_7 (io), 13 IO (io), 16 IO (io), 17 IO (io), 18 VCCO_7 (power), 19 IO (io), 20 IO (io), 21 IO_VREF_7 (io), 22 IO (io), 23 IO (io), 24 IO (io), 25 IO (io), 26 IO_IRDY (io), 28 VCCO_6 (power), 29 IO_TRDY (io), 31 IO (io), 32 IO (io), 33 IO (io), 34 IO_VREF_6 (io), 35 IO (io), 36 IO (io), 37 VCCO_6 (power), 38 IO (io), 39 IO (io), 40 IO (io), 43 IO (io), 44 IO_VREF_6 (io), 45 IO (io), 46 IO (io), 47 IO_VREF_6 (io), 49 IO (io), 50 IO (io), 51 IO_VREF_6 (io), 52 IO (io), 53 IO (io), 54 IO (io), 58 VCCO_5 (power), 60 IO (io), 61 IO (io), 62 IO (io), 63 IO_VREF_5 (io), 64 IO (io), 65 IO (io), 67 IO_VREF_5 (io), 68 IO (io), 69 IO (io), 70 IO_VREF5 (io), 71 IO (io), 74 IO (io), 75 IO (io), 76 VCCO_5 (power), 77 IO (io), 78 IO (io), 79 IO_VREF_5 (io), 80 IO (io), 81 IO (io), 82 IO (io), 84 GCK1 (in), 85 VCCO_4 (power), 87 GCKO (in), 88 IO (io), 89 IO (io), 90 IO (io), 91 IO (io), 92 IO_VREF_4 (io), 93 IO (io), 94 IO (io), 95 VCCO_4 (power), 96 IO (io), 97 IO (io), 98 IO (io), 101 IO (io), 102 IO_VREF_4 (io), 103 IO (io), 104 IO (io), 105 IO_VREF_4 (io), 107 IO (io), 108 IO (io), 109 IO_VREF_4 (io), 110 IO (io), 111 IO (io), 112 IO (io), 115 VCCO_4 (power), 117 IO_INIT (io), 118 IO_D7 (io), 119 IO (io), 120 IO_VREF_3 (io), 121 IO (io), 122 IO (io), 124 IO_VREF_3 (io), 125 IO (io), 126 IO (io), 127 IO_VREF_3 (io), 128 IO_D6 (io), 131 IO_D5 (io), 132 IO (io), 133 VCCO_3 (power), 134 IO (io), 135 IO (io), 136 IO_VREF_3 (io), 137 IO_D4 (io), 138 IO (io), 139 IO (io), 141 IO_TRDY (io), 142 VCCO_3 (power), 144 IO_IRDY (io), 145 IO (io), 146 IO (io), 147 IO (io), 148 IO_D3 (io), 149 IO_VREF_2 (io), 150 IO (io), 151 IO (io), 152 VCCO_2 (power), 153 IO (io), 154 IO (io), 155 IO_D2 (io), 158 IO_D1 (io), 159 IO_VREF_2 (io), 160 IO (io), 161 IO (io), 162 IO_VREF_2 (io), 164 IO (io), 165 IO (io), 166 IO_VREF_2 (io), 167 IO (io), 168 IO_DIN_D0 (io), 169 IO_DOUT_BUSY (io), 171 VCCO_2 (power), 175 IO_CS (io), 176 IO_WRITE (io), 177 IO (io), 178 IO_VREF_1 (io), 179 IO (io), 181 IO_VREF_1 (io), 182 IO (io), 183 IO (io), 184 IO_VREF_1 (io), 185 IO (io), 188 IO (io), 189 IO (io), 190 IO (io), 191 VCCO_1 (power), 192 IO (io), 193 IO (io), 194 IO_VREF_1 (io), 195 IO (io), 196 IO (io), 197 IO (io), 198 IO (io), 199 GCK2 (in), 201 VCCO_1 (power), 202 GCK3 (in), 204 IO (io), 205 IO (io), 206 IO (io), 207 IO_VREF_0 (io), 208 IO (io), 209 IO (io), 210 VCCO_0 (power), 211 IO (io), 212 IO (io), 213 IO (io), 216 IO (io), 217 IO_VREF_0 (io), 218 IO (io), 219 IO (io), 220 IO_VREF_0 (io), 222 IO (io), 223 IO (io), 224 IO_VREF_0 (io), 225 IO (io), 226 IO (io), 228 VCCO_0 (power)
part B pins: 1 GND (power), 2 TMS (in), 8 GND (power), 14 GND (power), 15 VCCINT (power), 27 GND (power), 30 VCCINT (power), 41 VCCINT (power), 42 GND (power), 48 GND (power), 55 M1 (in), 56 GND (power), 57 M0 (in), 59 M2 (in), 66 GND (power), 72 GND (power), 73 VCCINT (power), 83 VCCINT (power), 86 GND (power), 99 VCCINT (power), 100 GND (power), 106 GND (power), 113 GND (power), 114 DONE (io), 116 PROGRAM (in), 123 GND (power), 129 GND (power), 130 VCCINT (power), 140 VCCINT (power), 143 GND (power), 156 VCCINT (power), 157 GND (power), 163 GND (power), 170 CCLK (io), 172 TDO (out), 173 GND (power), 174 TDI (in), 180 GND (power), 186 GND (power), 187 VCCINT (power), 200 GND (power), 203 VCCINT (power), 214 VCCINT (power), 215 GND (power), 221 GND (power), 227 TCK (in)

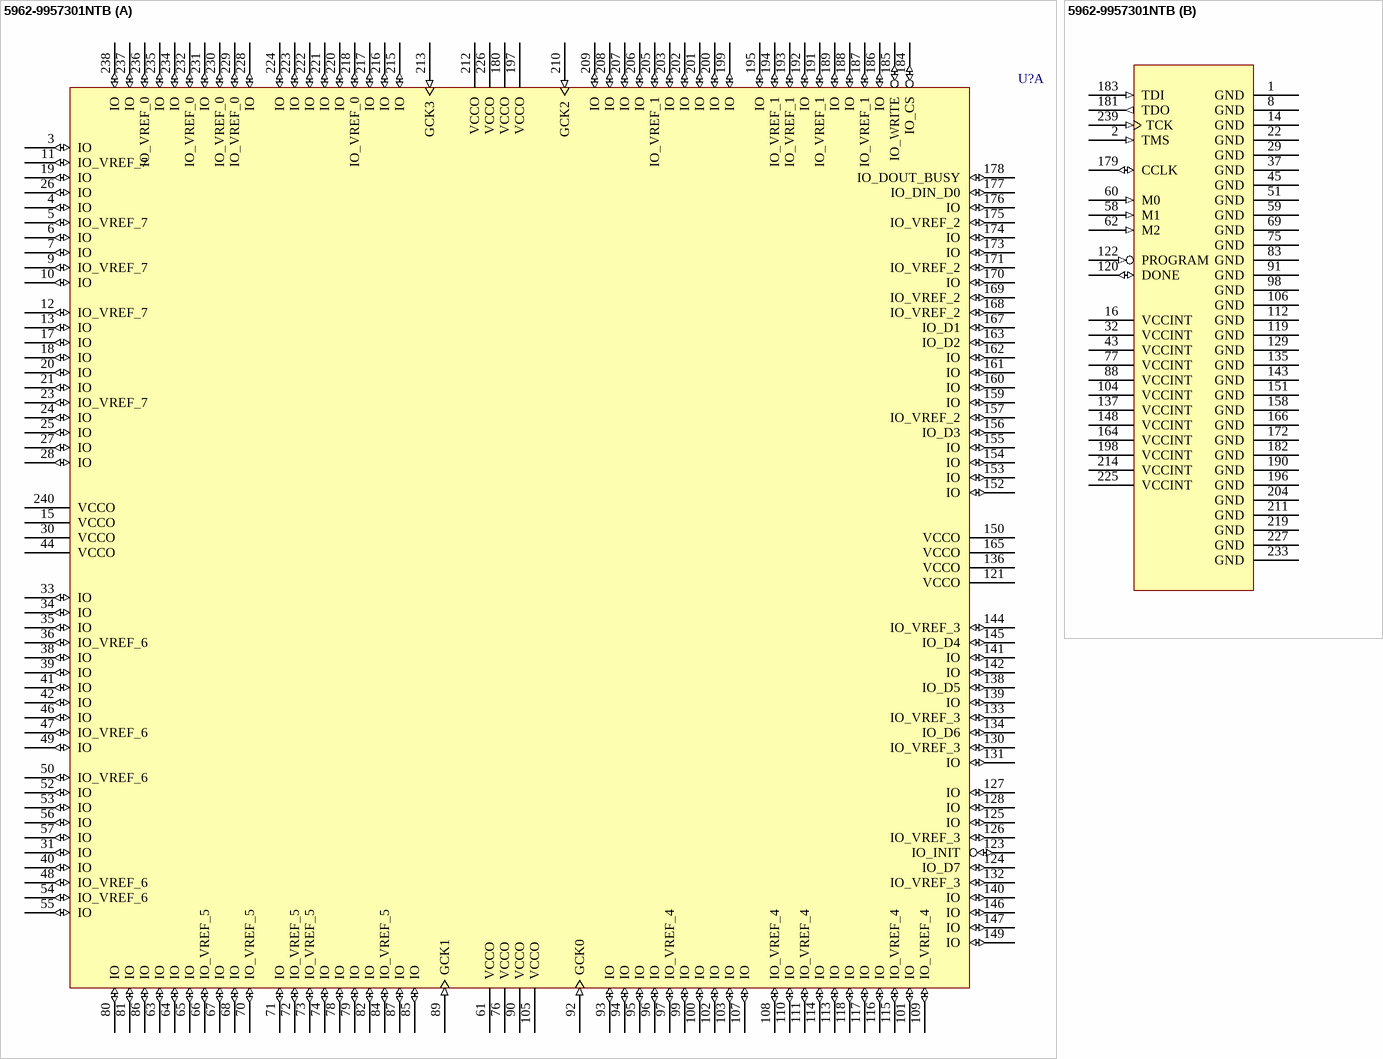
[diagram p8: symbol 5962-9957301NTB]

## 5962-9957301NTB
designator U?
QPro Virtex 2.5V QML High-Reliability FPGA, SMD Number for XQV600-4HQ240N, 166 User I/Os, 240-Pin Heat Sink PQFP, Speed Grade 4, MIL-PRF-38535 Grade; DatasheetVersion: ver1.5, Dec-2001; PackageVersion: ver1.2, Jun-2004; PackageReference: HQ240; PackageDescription: 240-Pin Heat Sink Quad Flat Pack (HQ240); Code_JEDEC: MO-143-GA; ComponentLink1Description: Manufacturer URL; ComponentLink1URL: http://www.xilinx.com/; ComponentLink2Description: QPro Virtex Datasheet; ComponentLink2URL: http://www.xilinx.com/support/documentation/data_sheets/ds002.pdf; ComponentLink3Description: HQ240 Package Drawing; ComponentLink3URL: http://www.xilinx.com/support/documentation/package_specs/hq240.pdf
footprint HQ240_N (Shrink QFP, 240-Leads, Body 32x32mm, Pitch 0.5mm, IPC Medium Density)
footprint HQ240_L (Shrink QFP, 240-Leads, Body 32x32mm, Pitch 0.5mm, IPC High Density)
footprint HQ240_M (Shrink QFP, 240-Leads, Body 32x32mm, Pitch 0.5mm, IPC Low Density)
part A pins: 3 IO (io), 4 IO (io), 5 IO_VREF_7 (io), 6 IO (io), 7 IO (io), 9 IO_VREF_7 (io), 10 IO (io), 11 IO_VREF_7 (io), 12 IO_VREF_7 (io), 13 IO (io), 15 VCCO (power), 17 IO (io), 18 IO (io), 19 IO (io), 20 IO (io), 21 IO (io), 23 IO_VREF_7 (io), 24 IO (io), 25 IO (io), 26 IO (io), 27 IO (io), 28 IO (io), 30 VCCO (power), 31 IO (io), 33 IO (io), 34 IO (io), 35 IO (io), 36 IO_VREF_6 (io), 38 IO (io), 39 IO (io), 40 IO (io), 41 IO (io), 42 IO (io), 44 VCCO (power), 46 IO (io), 47 IO_VREF_6 (io), 48 IO_VREF_6 (io), 49 IO (io), 50 IO_VREF_6 (io), 52 IO (io), 53 IO (io), 54 IO_VREF_6 (io), 55 IO (io), 56 IO (io), 57 IO (io), 61 VCCO (power), 63 IO (io), 64 IO (io), 65 IO (io), 66 IO_VREF_5 (io), 67 IO (io), 68 IO (io), 70 IO_VREF_5 (io), 71 IO (io), 72 IO_VREF_5 (io), 73 IO_VREF_5 (io), 74 IO (io), 76 VCCO (power), 78 IO (io), 79 IO (io), 80 IO (io), 81 IO (io), 82 IO (io), 84 IO_VREF_5 (io), 85 IO (io), 86 IO (io), 87 IO (io), 89 GCK1 (in), 90 VCCO (power), 92 GCK0 (in), 93 IO (io), 94 IO (io), 95 IO (io), 96 IO (io), 97 IO_VREF_4 (io), 99 IO (io), 100 IO (io), 101 IO (io), 102 IO (io), 103 IO (io), 105 VCCO (power), 107 IO (io), 108 IO_VREF_4 (io), 109 IO_VREF_4 (io), 110 IO (io), 111 IO_VREF_4 (io), 113 IO (io), 114 IO (io), 115 IO_VREF_4 (io), 116 IO (io), 117 IO (io), 118 IO (io), 121 VCCO (power), 123 IO_INIT (io), 124 IO_D7 (io), 125 IO (io), 126 IO_VREF_3 (io), 127 IO (io), 128 IO (io), 130 IO_VREF_3 (io), 131 IO (io), 132 IO_VREF_3 (io), 133 IO_VREF_3 (io), 134 IO_D6 (io), 136 VCCO (power), 138 IO_D5 (io), 139 IO (io), 140 IO (io), 141 IO (io), 142 IO (io), 144 IO_VREF_3 (io), 145 IO_D4 (io), 146 IO (io), 147 IO (io), 149 IO (io), 150 VCCO (power), 152 IO (io), 153 IO (io), 154 IO (io), 155 IO (io), 156 IO_D3 (io), 157 IO_VREF_2 (io), 159 IO (io), 160 IO (io), 161 IO (io), 162 IO (io), 163 IO_D2 (io), 165 VCCO (power), 167 IO_D1 (io), 168 IO_VREF_2 (io), 169 IO_VREF_2 (io), 170 IO (io), 171 IO_VREF_2 (io), 173 IO (io), 174 IO (io), 175 IO_VREF_2 (io), 176 IO (io), 177 IO_DIN_D0 (io), 178 IO_DOUT_BUSY (io), 180 VCCO (power), 184 IO_CS (io), 185 IO_WRITE (io), 186 IO (io), 187 IO_VREF_1 (io), 188 IO (io), 189 IO (io), 191 IO_VREF_1 (io), 192 IO (io), 193 IO_VREF_1 (io), 194 IO_VREF_1 (io), 195 IO (io), 197 VCCO (power), 199 IO (io), 200 IO (io), 201 IO (io), 202 IO (io), 203 IO (io), 205 IO_VREF_1 (io), 206 IO (io), 207 IO (io), 208 IO (io), 209 IO (io), 210 GCK2 (in), 212 VCCO (power), 213 GCK3 (in), 215 IO (io), 216 IO (io), 217 IO (io), 218 IO_VREF_0 (io), 220 IO (io), 221 IO (io), 222 IO (io), 223 IO (io), 224 IO (io), 226 VCCO (power), 228 IO (io), 229 IO_VREF_0 (io), 230 IO_VREF_0 (io), 231 IO (io), 232 IO_VREF_0 (io), 234 IO (io), 235 IO (io), 236 IO_VREF_0 (io), 237 IO (io), 238 IO (io), 240 VCCO (power)
part B pins: 1 GND (power), 2 TMS (in), 8 GND (power), 14 GND (power), 16 VCCINT (power), 22 GND (power), 29 GND (power), 32 VCCINT (power), 37 GND (power), 43 VCCINT (power), 45 GND (power), 51 GND (power), 58 M1 (in), 59 GND (power), 60 M0 (in), 62 M2 (in), 69 GND (power), 75 GND (power), 77 VCCINT (power), 83 GND (power), 88 VCCINT (power), 91 GND (power), 98 GND (power), 104 VCCINT (power), 106 GND (power), 112 GND (power), 119 GND (power), 120 DONE (io), 122 PROGRAM (in), 129 GND (power), 135 GND (power), 137 VCCINT (power), 143 GND (power), 148 VCCINT (power), 151 GND (power), 158 GND (power), 164 VCCINT (power), 166 GND (power), 172 GND (power), 179 CCLK (io), 181 TDO (out), 182 GND (power), 183 TDI (in), 190 GND (power), 196 GND (power), 198 VCCINT (power), 204 GND (power), 211 GND (power), 214 VCCINT (power), 219 GND (power), 225 VCCINT (power), 227 GND (power), 233 GND (power), 239 TCK (in)

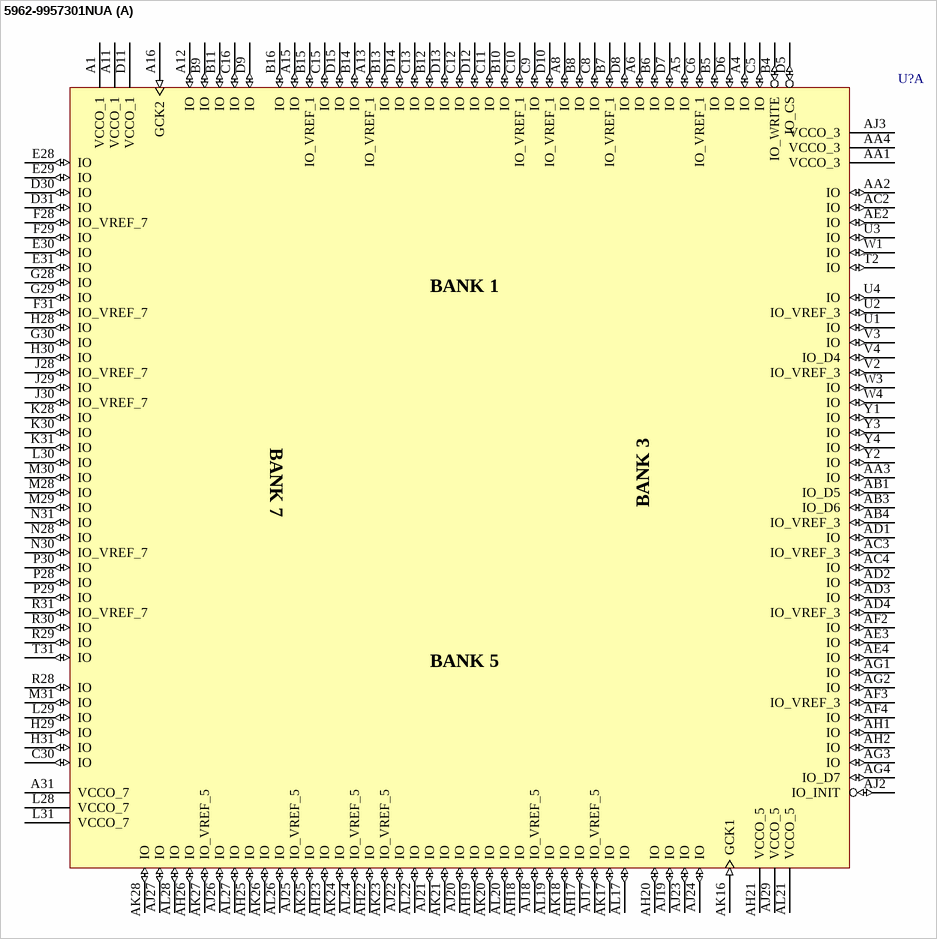
[diagram p9: symbol 5962-9957301NUA]

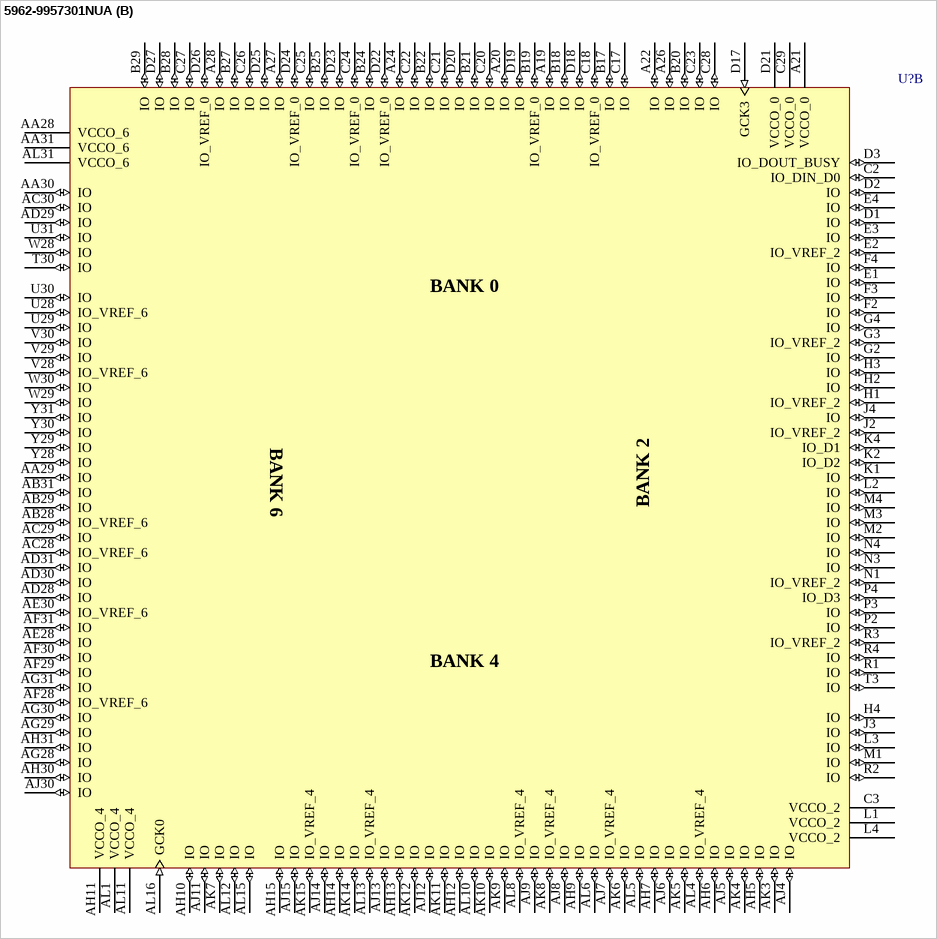
[diagram p10: symbol 5962-9957301NUA]

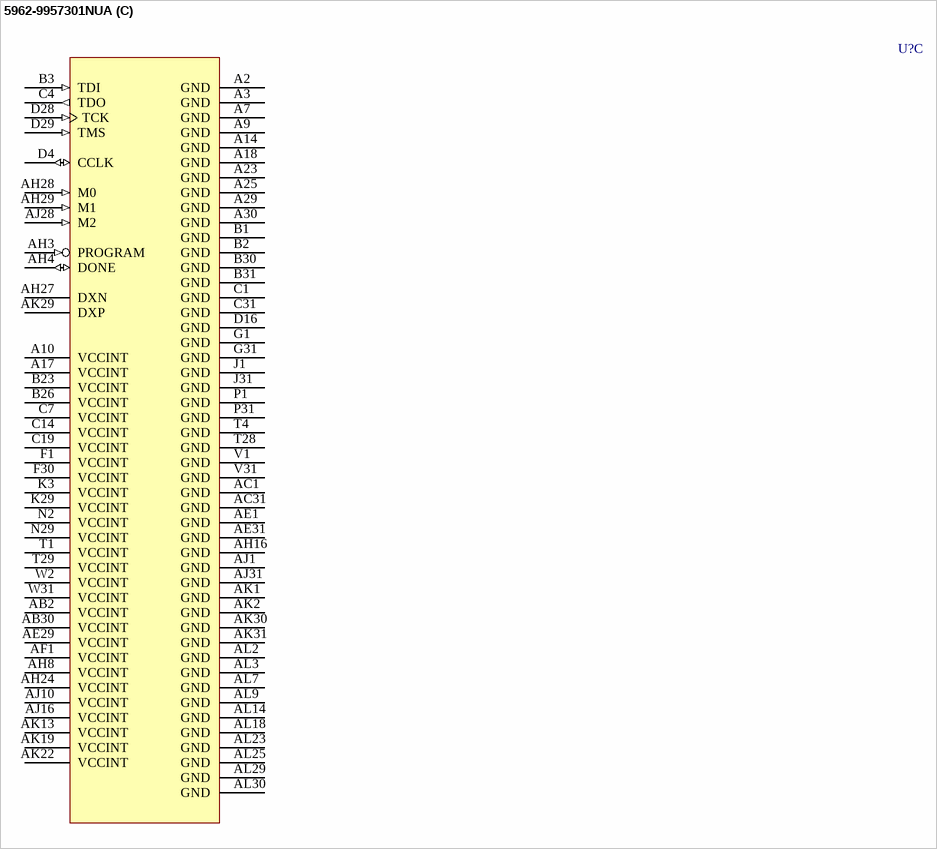
[diagram p11: symbol 5962-9957301NUA]

## 5962-9957301NUA
designator U?
QPro Virtex 2.5V QML High-Reliability FPGA, SMD Number for XQV600-4BG432N, 316 User I/Os, 432-Pin BGA, Speed Grade 4, MIL-PRF-38535 Grade; DatasheetVersion: ver1.5, Dec-2001; PackageVersion: ver1.1, Apr-2001; PackageReference: BG432; PackageDescription: 432-Ball Metal Ball Grid Array (BG432); Code_JEDEC: MO-192-BAU-1 (Depopulated); ComponentLink1Description: Manufacturer URL; ComponentLink1URL: http://www.xilinx.com/; ComponentLink2Description: QPro Virtex Datasheet; ComponentLink2URL: http://www.xilinx.com/support/documentation/data_sheets/ds002.pdf; ComponentLink3Description: BG432 Package Drawing; ComponentLink3URL: http://www.xilinx.com/support/documentation/package_specs/bg432.pdf
footprint BG432 (BGA, 432-Leads, Body 40x40mm, Pitch 1.27mm)
part A pins: A1 VCCO_1 (power), A4 IO (io), A5 IO (io), A6 IO (io), A8 IO (io), A11 VCCO_1 (power), A12 IO (io), A13 IO_VREF_1 (io), A15 IO (io), A16 GCK2 (in), A31 VCCO_7 (power), AA1 VCCO_3 (power), AA2 IO (io), AA3 IO (io), AA4 VCCO_3 (power), AB1 IO_D5 (io), AB3 IO_D6 (io), AB4 IO_VREF_3 (io), AC2 IO (io), AC3 IO_VREF_3 (io), AC4 IO (io), AD1 IO (io), AD2 IO (io), AD3 IO (io), AD4 IO_VREF_3 (io), AE2 IO (io), AE3 IO (io), AE4 IO (io), AF2 IO (io), AF3 IO_VREF_3 (io), AF4 IO (io), AG1 IO (io), AG2 IO (io), AG3 IO (io), AG4 IO_D7 (io), AH1 IO (io), AH2 IO (io), AH17 IO (io), AH18 IO (io), AH19 IO (io), AH20 IO (io), AH21 VCCO_5 (power), AH22 IO (io), AH23 IO (io), AH25 IO (io), AH26 IO (io), AJ2 IO_INIT (io), AJ3 VCCO_3 (power), AJ17 IO_VREF_5 (io), AJ18 IO_VREF_5 (io), AJ19 IO (io), AJ20 IO (io), AJ21 IO (io), AJ22 IO (io), AJ23 IO (io), AJ24 IO (io), AJ25 IO_VREF_5 (io), AJ26 IO (io), AJ27 IO (io), AJ29 VCCO_5 (power), AK16 GCK1 (in), AK17 IO (io), AK18 IO (io), AK20 IO (io), AK21 IO (io), AK23 IO_VREF_5 (io), AK24 IO (io), AK25 IO (io), AK26 IO (io), AK27 IO_VREF_5 (io), AK28 IO (io), AL17 IO (io), AL19 IO (io), AL20 IO (io), AL21 VCCO_5 (power), AL22 IO (io), AL24 IO_VREF_5 (io), AL26 IO (io), AL27 IO (io), AL28 IO (io), B4 IO_WRITE (io), B5 IO (io), B6 IO (io), B7 IO_VREF_1 (io), B8 IO (io), B9 IO (io), B10 IO (io), B11 IO (io), B12 IO (io), B13 IO (io), B14 IO (io), B15 IO_VREF_1 (io), B16 IO (io), C5 IO (io), C6 IO_VREF_1 (io), C8 IO (io), C9 IO (io), C10 IO_VREF_1 (io), C11 IO (io), C12 IO (io), C13 IO (io), C15 IO (io), C16 IO (io), C30 IO (io), D5 IO_CS (io), D6 IO (io), D7 IO (io), D8 IO (io), D9 IO (io), D10 IO_VREF_1 (io), D11 VCCO_1 (power), D12 IO (io), D13 IO (io), D14 IO (io), D15 IO (io), D30 IO (io), D31 IO (io), E28 IO (io), E29 IO (io), E30 IO (io), E31 IO (io), F28 IO_VREF_7 (io), F29 IO (io), F31 IO_VREF_7 (io), G28 IO (io), G29 IO (io), G30 IO (io), H28 IO (io), H29 IO (io), H30 IO (io), H31 IO (io), J28 IO_VREF_7 (io), J29 IO (io), J30 IO_VREF_7 (io), K28 IO (io), K30 IO (io), K31 IO (io), L28 VCCO_7 (power), L29 IO (io), L30 IO (io), L31 VCCO_7 (power), M28 IO (io), M29 IO (io), M30 IO (io), M31 IO (io), N28 IO (io), N30 IO_VREF_7 (io), N31 IO (io), P28 IO (io), P29 IO (io), P30 IO (io), R28 IO (io), R29 IO (io), R30 IO (io), R31 IO_VREF_7 (io), T2 IO (io), T31 IO (io), U1 IO (io), U2 IO_VREF_3 (io), U3 IO (io), U4 IO (io), V2 IO_VREF_3 (io), V3 IO (io), V4 IO_D4 (io), W1 IO (io), W3 IO (io), W4 IO (io), Y1 IO (io), Y2 IO (io), Y3 IO (io), Y4 IO (io)
part B pins: A19 IO (io), A20 IO (io), A21 VCCO_0 (power), A22 IO (io), A24 IO (io), A26 IO (io), A27 IO (io), A28 IO (io), AA28 VCCO_6 (power), AA29 IO (io), AA30 IO (io), AA31 VCCO_6 (power), AB28 IO_VREF_6 (io), AB29 IO (io), AB31 IO (io), AC28 IO_VREF_6 (io), AC29 IO (io), AC30 IO (io), AD28 IO (io), AD29 IO (io), AD30 IO (io), AD31 IO (io), AE28 IO (io), AE30 IO_VREF_6 (io), AF28 IO_VREF_6 (io), AF29 IO (io), AF30 IO (io), AF31 IO (io), AG28 IO (io), AG29 IO (io), AG30 IO (io), AG31 IO (io), AH5 IO (io), AH6 IO (io), AH7 IO (io), AH9 IO (io), AH10 IO (io), AH11 VCCO_4 (power), AH12 IO (io), AH13 IO (io), AH14 IO (io), AH15 IO (io), AH30 IO (io), AH31 IO (io), AJ4 IO (io), AJ5 IO (io), AJ6 IO (io), AJ7 IO_VREF_4 (io), AJ8 IO (io), AJ9 IO (io), AJ11 IO (io), AJ12 IO (io), AJ13 IO (io), AJ14 IO (io), AJ15 IO (io), AJ30 IO (io), AK3 IO (io), AK4 IO (io), AK5 IO (io), AK6 IO (io), AK7 IO (io), AK8 IO_VREF_4 (io), AK9 IO (io), AK10 IO (io), AK11 IO (io), AK12 IO (io), AK14 IO (io), AK15 IO_VREF_4 (io), AL1 VCCO_4 (power), AL4 IO_VREF_4 (io), AL5 IO (io), AL6 IO (io), AL8 IO_VREF_4 (io), AL10 IO (io), AL11 VCCO_4 (power), AL12 IO (io), AL13 IO_VREF_4 (io), AL15 IO (io), AL16 GCK0 (in), AL31 VCCO_6 (power), B17 IO (io), B18 IO (io), B19 IO_VREF_0 (io), B20 IO (io), B21 IO (io), B22 IO (io), B24 IO (io), B25 IO (io), B27 IO (io), B28 IO (io), B29 IO (io), C2 IO_DIN_D0 (io), C3 VCCO_2 (power), C17 IO (io), C18 IO_VREF_0 (io), C20 IO (io), C21 IO (io), C22 IO (io), C23 IO (io), C24 IO_VREF_0 (io), C25 IO (io), C26 IO (io), C27 IO (io), C28 IO (io), C29 VCCO_0 (power), D1 IO (io), D2 IO (io), D3 IO_DOUT_BUSY (io), D17 GCK3 (in), D18 IO (io), D19 IO (io), D20 IO (io), D21 VCCO_0 (power), D22 IO_VREF_0 (io), D23 IO (io), D24 IO_VREF_0 (io), D25 IO (io), D26 IO_VREF_0 (io), D27 IO (io), E1 IO (io), E2 IO_VREF_2 (io), E3 IO (io), E4 IO (io), F2 IO (io), F3 IO (io), F4 IO (io), G2 IO (io), G3 IO_VREF_2 (io), G4 IO (io), H1 IO_VREF_2 (io), H2 IO (io), H3 IO (io), H4 IO (io), J2 IO_VREF_2 (io), J3 IO (io), J4 IO (io), K1 IO (io), K2 IO_D2 (io), K4 IO_D1 (io), L1 VCCO_2 (power), L2 IO (io), L3 IO (io), L4 VCCO_2 (power), M1 IO (io), M2 IO (io), M3 IO (io), M4 IO (io), N1 IO_VREF_2 (io), N3 IO (io), N4 IO (io), P2 IO (io), P3 IO (io), P4 IO_D3 (io), R1 IO (io), R2 IO (io), R3 IO_VREF_2 (io), R4 IO (io), T3 IO (io), T30 IO (io), U28 IO_VREF_6 (io), U29 IO (io), U30 IO (io), U31 IO (io), V28 IO_VREF_6 (io), V29 IO (io), V30 IO (io), W28 IO (io), W29 IO (io), W30 IO (io), Y28 IO (io), Y29 IO (io), Y30 IO (io), Y31 IO (io)
part C pins: A2 GND (power), A3 GND (power), A7 GND (power), A9 GND (power), A10 VCCINT (power), A14 GND (power), A17 VCCINT (power), A18 GND (power), A23 GND (power), A25 GND (power), A29 GND (power), A30 GND (power), AB2 VCCINT (power), AB30 VCCINT (power), AC1 GND (power), AC31 GND (power), AE1 GND (power), AE29 VCCINT (power), AE31 GND (power), AF1 VCCINT (power), AH3 PROGRAM (in), AH4 DONE (io), AH8 VCCINT (power), AH16 GND (power), AH24 VCCINT (power), AH27 DXN, AH28 M0 (in), AH29 M1 (in), AJ1 GND (power), AJ10 VCCINT (power), AJ16 VCCINT (power), AJ28 M2 (in), AJ31 GND (power), AK1 GND (power), AK2 GND (power), AK13 VCCINT (power), AK19 VCCINT (power), AK22 VCCINT (power), AK29 DXP, AK30 GND (power), AK31 GND (power), AL2 GND (power), AL3 GND (power), AL7 GND (power), AL9 GND (power), AL14 GND (power), AL18 GND (power), AL23 GND (power), AL25 GND (power), AL29 GND (power), AL30 GND (power), B1 GND (power), B2 GND (power), B3 TDI (in), B23 VCCINT (power), B26 VCCINT (power), B30 GND (power), B31 GND (power), C1 GND (power), C4 TDO (out), C7 VCCINT (power), C14 VCCINT (power), C19 VCCINT (power), C31 GND (power), D4 CCLK (io), D16 GND (power), D28 TCK (in), D29 TMS (in), F1 VCCINT (power), F30 VCCINT (power), G1 GND (power), G31 GND (power), J1 GND (power), J31 GND (power), K3 VCCINT (power), K29 VCCINT (power), N2 VCCINT (power), N29 VCCINT (power), P1 GND (power), P31 GND (power), T1 VCCINT (power), T4 GND (power), T28 GND (power), T29 VCCINT (power), V1 GND (power), V31 GND (power), W2 VCCINT (power), W31 VCCINT (power)
part A text: BANK 1; BANK 7; BANK 3; BANK 5
part B text: BANK 0; BANK 6; BANK 2; BANK 4

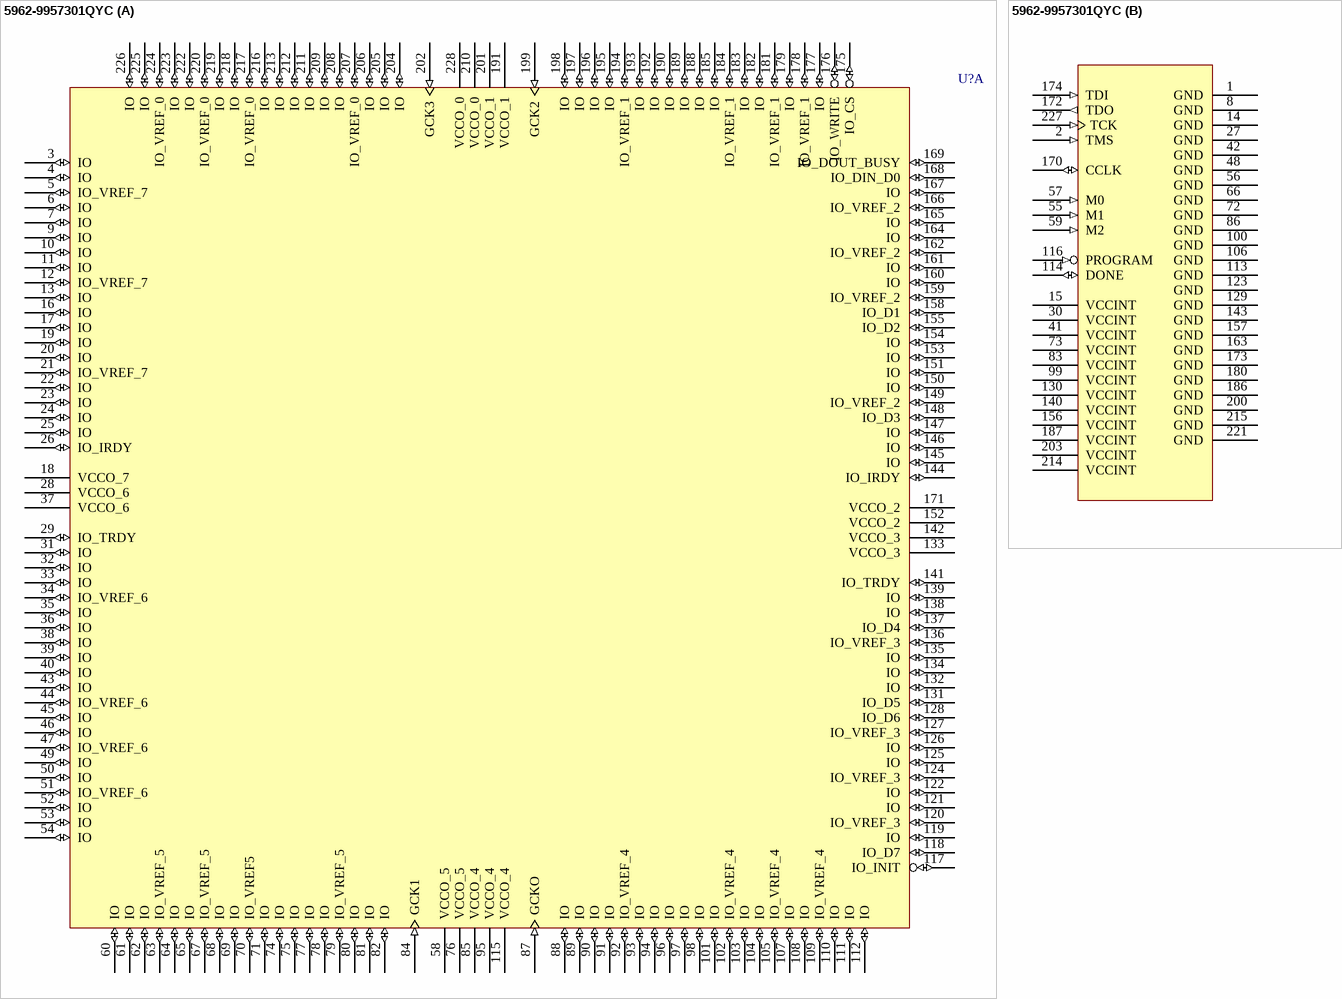
[diagram p12: symbol 5962-9957301QYC]

## 5962-9957301QYC
designator U?
QPro Virtex 2.5V QML High-Reliability FPGA, SMD Number for XQV600-4CB228Q, 162 User I/Os, 228-Pin CQFP, Speed Grade 4, MIL-PRF-38535 Grade; DatasheetVersion: ver1.5, Dec-2001; PackageVersion: ver1.0.1, May-2008; PackageReference: CB228; PackageDescription: 228-Pin Ceramic Brazed Quad Flat Pack (CB228); ComponentLink1Description: Manufacturer URL; ComponentLink1URL: http://www.xilinx.com/; ComponentLink2Description: QPro Virtex Datasheet; ComponentLink2URL: http://www.xilinx.com/support/documentation/data_sheets/ds002.pdf; ComponentLink3Description: CB228 Package Drawing; ComponentLink3URL: http://www.xilinx.com/support/documentation/package_specs/cb228.pdf
footprint CB228_N (CQFP, 228-Leads, Body 39x39mm; Pitch 0.635mm, Gullwing Leadform, IPC Medium Density)
footprint CB228_L (CQFP, 228-Leads, Body 39x39mm; Pitch 0.635mm, Gullwing Leadform, IPC High Density)
footprint CB228_M (CQFP, 228-Leads, Body 39x39mm; Pitch 0.635mm, Gullwing Leadform, IPC Low Density)
part A pins: 3 IO (io), 4 IO (io), 5 IO_VREF_7 (io), 6 IO (io), 7 IO (io), 9 IO (io), 10 IO (io), 11 IO (io), 12 IO_VREF_7 (io), 13 IO (io), 16 IO (io), 17 IO (io), 18 VCCO_7 (power), 19 IO (io), 20 IO (io), 21 IO_VREF_7 (io), 22 IO (io), 23 IO (io), 24 IO (io), 25 IO (io), 26 IO_IRDY (io), 28 VCCO_6 (power), 29 IO_TRDY (io), 31 IO (io), 32 IO (io), 33 IO (io), 34 IO_VREF_6 (io), 35 IO (io), 36 IO (io), 37 VCCO_6 (power), 38 IO (io), 39 IO (io), 40 IO (io), 43 IO (io), 44 IO_VREF_6 (io), 45 IO (io), 46 IO (io), 47 IO_VREF_6 (io), 49 IO (io), 50 IO (io), 51 IO_VREF_6 (io), 52 IO (io), 53 IO (io), 54 IO (io), 58 VCCO_5 (power), 60 IO (io), 61 IO (io), 62 IO (io), 63 IO_VREF_5 (io), 64 IO (io), 65 IO (io), 67 IO_VREF_5 (io), 68 IO (io), 69 IO (io), 70 IO_VREF5 (io), 71 IO (io), 74 IO (io), 75 IO (io), 76 VCCO_5 (power), 77 IO (io), 78 IO (io), 79 IO_VREF_5 (io), 80 IO (io), 81 IO (io), 82 IO (io), 84 GCK1 (in), 85 VCCO_4 (power), 87 GCKO (in), 88 IO (io), 89 IO (io), 90 IO (io), 91 IO (io), 92 IO_VREF_4 (io), 93 IO (io), 94 IO (io), 95 VCCO_4 (power), 96 IO (io), 97 IO (io), 98 IO (io), 101 IO (io), 102 IO_VREF_4 (io), 103 IO (io), 104 IO (io), 105 IO_VREF_4 (io), 107 IO (io), 108 IO (io), 109 IO_VREF_4 (io), 110 IO (io), 111 IO (io), 112 IO (io), 115 VCCO_4 (power), 117 IO_INIT (io), 118 IO_D7 (io), 119 IO (io), 120 IO_VREF_3 (io), 121 IO (io), 122 IO (io), 124 IO_VREF_3 (io), 125 IO (io), 126 IO (io), 127 IO_VREF_3 (io), 128 IO_D6 (io), 131 IO_D5 (io), 132 IO (io), 133 VCCO_3 (power), 134 IO (io), 135 IO (io), 136 IO_VREF_3 (io), 137 IO_D4 (io), 138 IO (io), 139 IO (io), 141 IO_TRDY (io), 142 VCCO_3 (power), 144 IO_IRDY (io), 145 IO (io), 146 IO (io), 147 IO (io), 148 IO_D3 (io), 149 IO_VREF_2 (io), 150 IO (io), 151 IO (io), 152 VCCO_2 (power), 153 IO (io), 154 IO (io), 155 IO_D2 (io), 158 IO_D1 (io), 159 IO_VREF_2 (io), 160 IO (io), 161 IO (io), 162 IO_VREF_2 (io), 164 IO (io), 165 IO (io), 166 IO_VREF_2 (io), 167 IO (io), 168 IO_DIN_D0 (io), 169 IO_DOUT_BUSY (io), 171 VCCO_2 (power), 175 IO_CS (io), 176 IO_WRITE (io), 177 IO (io), 178 IO_VREF_1 (io), 179 IO (io), 181 IO_VREF_1 (io), 182 IO (io), 183 IO (io), 184 IO_VREF_1 (io), 185 IO (io), 188 IO (io), 189 IO (io), 190 IO (io), 191 VCCO_1 (power), 192 IO (io), 193 IO (io), 194 IO_VREF_1 (io), 195 IO (io), 196 IO (io), 197 IO (io), 198 IO (io), 199 GCK2 (in), 201 VCCO_1 (power), 202 GCK3 (in), 204 IO (io), 205 IO (io), 206 IO (io), 207 IO_VREF_0 (io), 208 IO (io), 209 IO (io), 210 VCCO_0 (power), 211 IO (io), 212 IO (io), 213 IO (io), 216 IO (io), 217 IO_VREF_0 (io), 218 IO (io), 219 IO (io), 220 IO_VREF_0 (io), 222 IO (io), 223 IO (io), 224 IO_VREF_0 (io), 225 IO (io), 226 IO (io), 228 VCCO_0 (power)
part B pins: 1 GND (power), 2 TMS (in), 8 GND (power), 14 GND (power), 15 VCCINT (power), 27 GND (power), 30 VCCINT (power), 41 VCCINT (power), 42 GND (power), 48 GND (power), 55 M1 (in), 56 GND (power), 57 M0 (in), 59 M2 (in), 66 GND (power), 72 GND (power), 73 VCCINT (power), 83 VCCINT (power), 86 GND (power), 99 VCCINT (power), 100 GND (power), 106 GND (power), 113 GND (power), 114 DONE (io), 116 PROGRAM (in), 123 GND (power), 129 GND (power), 130 VCCINT (power), 140 VCCINT (power), 143 GND (power), 156 VCCINT (power), 157 GND (power), 163 GND (power), 170 CCLK (io), 172 TDO (out), 173 GND (power), 174 TDI (in), 180 GND (power), 186 GND (power), 187 VCCINT (power), 200 GND (power), 203 VCCINT (power), 214 VCCINT (power), 215 GND (power), 221 GND (power), 227 TCK (in)

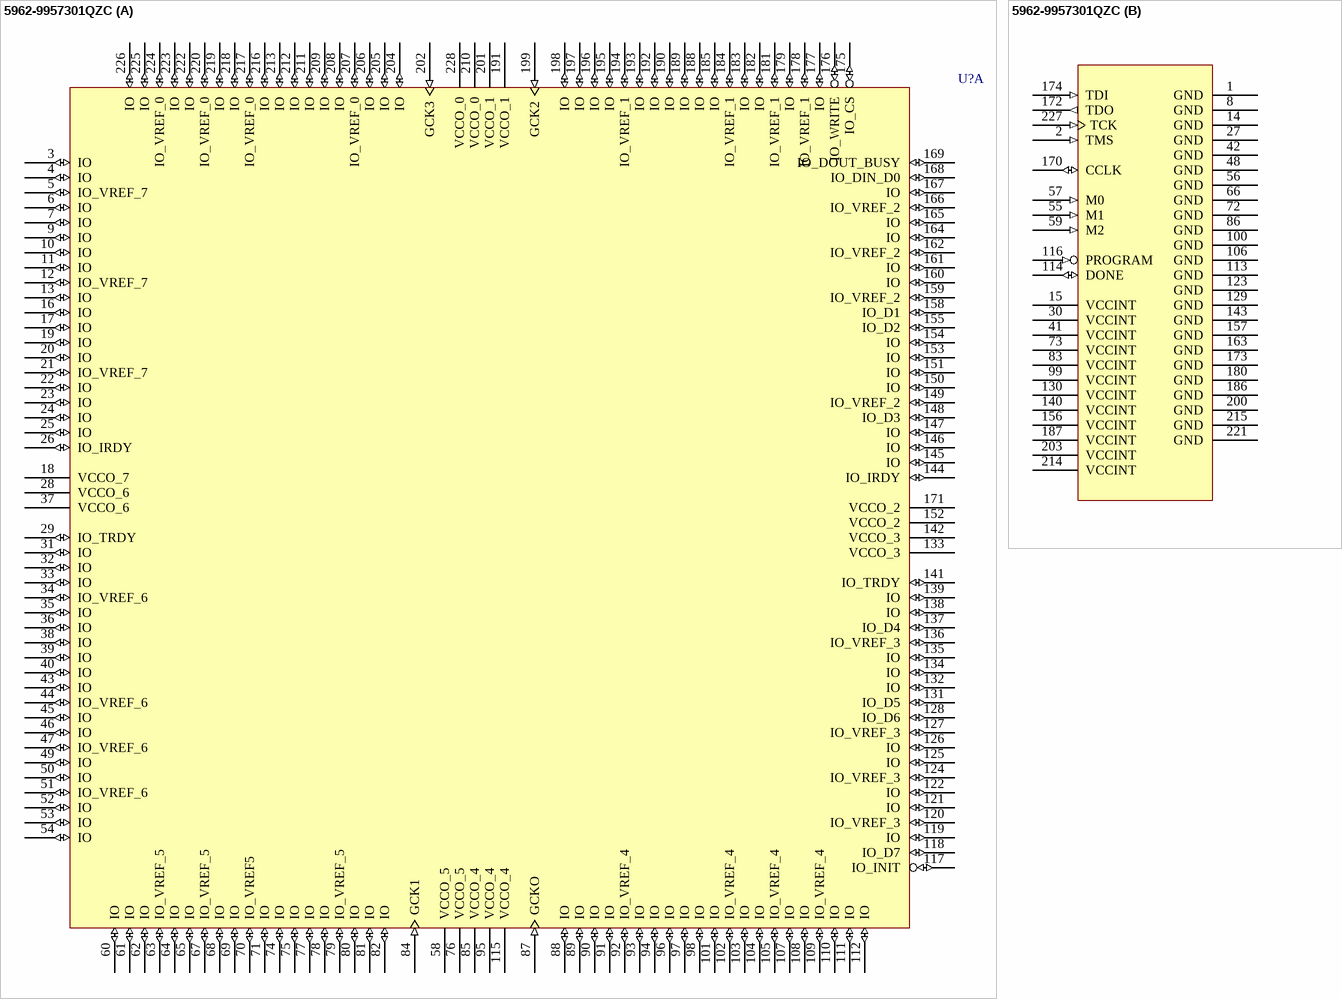
[diagram p13: symbol 5962-9957301QZC]